# Altium schematic symbol library Arkx.SchLib: 534 symbols (part 1 of 5)
Pins are listed as number, name and electrical type; pins without a type are passive.

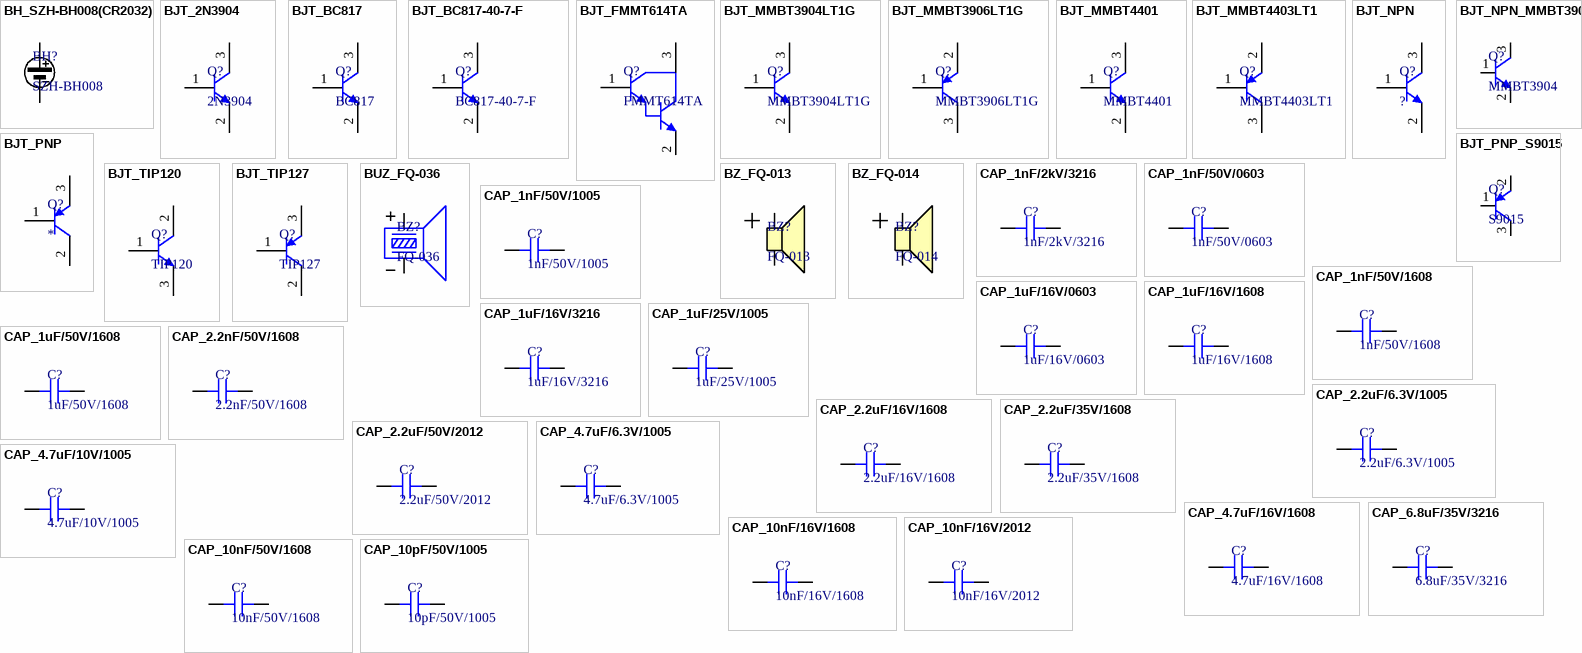
[diagram p0: symbols BH_SZH-BH008(CR2032) to CAP_10pF/50V/1005]

## BH_SZH-BH008(CR2032)
designator BH?, comment SZH-BH008
CR2032 Battery Holder SMD type
footprint BAT SZH-BH008 (CR2032 Battery Holder SMD type)
pins: 1 BAT+, 2 BAT-

## BJT_2N3904
designator Q?, comment 2N3904
NPN General Purpose Amplifier / VCEOmax = 40V / ICmax = 200mA / PD = 625mW
pins: 1 B, 2 E, 3 C

## BJT_BC817
designator Q?, comment BC817
45V 300mW 500mA 40@500mA,1V 100MHz 700mV@500mA,50mA NPN +150℃@(Tj) SOT-23  Bipolar Transistors - BJT ROHS; LCSC Part #: C475629; JLCPCB Part Type: Extended Part
footprint SOT 23-3 (DIODES INCORPORATED) (SOT23, 3-Leads, Body 2.90x2.40mm, Pitch 0.95mm, IPC Medium Density)
pins: 1 B, 2 E, 3 C

## BJT_BC817-40-7-F
designator Q?, comment BC817-40-7-F
TRANS NPN 45V 0.5A SOT23-3
footprint SOT 23-3 (DIODES INCORPORATED) (SOT23, 3-Leads, Body 2.90x2.40mm, Pitch 0.95mm, IPC Medium Density)
pins: 1 B, 2 E, 3 C

## BJT_FMMT614TA
designator Q?, comment FMMT614TA
TRANS NPN DARL 100V 0.5A SOT23-3
footprint SOT 23-3 (DIODES INCORPORATED) (SOT23, 3-Leads, Body 2.90x2.40mm, Pitch 0.95mm, IPC Medium Density)
pins: 1 B, 2 E, 3

## BJT_MMBT3904LT1G
designator Q?, comment MMBT3904LT1G
TRANS NPN 40V 0.2A SOT23-3; ComponentLink1Description: Datasheet; ComponentLink1URL: https://www.onsemi.com/pdf/datasheet/mmbt3904lt1-d.pdf
footprint SOT 23-3 (DIODES INCORPORATED) (SOT23, 3-Leads, Body 2.90x2.40mm, Pitch 0.95mm, IPC Medium Density)
pins: 1 B, 2 E, 3 C

## BJT_MMBT3906LT1G
designator Q?, comment MMBT3906LT1G
TRANS PNP 40V 0.2A SOT23; ComponentLink1Description: Datasheet; ComponentLink1URL: https://www.onsemi.com/pdf/datasheet/mmbt3906lt1-d.pdf
footprint SOT 23-3 (DIODES INCORPORATED) (SOT23, 3-Leads, Body 2.90x2.40mm, Pitch 0.95mm, IPC Medium Density)
pins: 1 B, 2 E, 3 C

## BJT_MMBT4401
designator Q?, comment MMBT4401
40V 300mW 600mA 100@150mA,1V 250MHz 400mV@150mA,15mA NPN +150℃@(Tj) SOT-23-3  Bipolar Transistors - BJT ROHS; LCSC Part #: C545536; JLCPCB Part Type: Extended Part
footprint SOT 23-3 (DIODES INCORPORATED) (SOT23, 3-Leads, Body 2.90x2.40mm, Pitch 0.95mm, IPC Medium Density)
pins: 1 B, 2 E, 3 C

## BJT_MMBT4403LT1
designator Q?, comment MMBT4403LT1
PNP, Vceo = -40V, Ic = -600mA, SOT-23
pins: 1 B, 2 E, 3 C

## BJT_NPN
designator Q?, comment ?
pins: 1 B, 2 E, 3 C

## BJT_NPN_MMBT3904
designator Q?, comment MMBT3904
100nA 40V 200mW 200mA 100@10mA,1V 300MHz 300mV@50mA,5mA NPN +150℃@(Tj) SOT-23(SOT-23-3)  Bipolar Transistors - BJT ROHS; LCSC Part #: C20526; JLCPCB Part Type: Basic Part
footprint SOT 23-3 (DIODES INCORPORATED) (SOT23, 3-Leads, Body 2.90x2.40mm, Pitch 0.95mm, IPC Medium Density)
pins: 1 B, 2 E, 3 C

## BJT_PNP
designator Q?
pins: 1 B, 2 E, 3 C

## BJT_PNP_S9015
designator Q?, comment S9015
100nA 45V 200mW 100mA 300@1mA,5V 150MHz 300mV@100mA,10mA PNP +150℃@(Tj) SOT-23(SOT-23-3)  Bipolar Transistors - BJT ROHS; LCSC Part #: C2149; JLCPCB Part Type: Basic Part
footprint SOT 23-3 (DIODES INCORPORATED) (SOT23, 3-Leads, Body 2.90x2.40mm, Pitch 0.95mm, IPC Medium Density)
pins: 1 B, 2 E, 3 C

## BJT_TIP120
designator Q?, comment TIP120
Darlington Transistors NPN Power
pins: 1 B, 2 C, 3 E

## BJT_TIP127
designator Q?, comment TIP127
Darlington Transistors PNP Power
pins: 1 B, 2 E, 3 C

## BUZ_FQ-036
designator BZ?, comment FQ-036
5V Passive Buzzer / Rated Voltage: 5V / Size: 12x9mm
footprint BUZ FQ-036
pins: 1, 2

## BZ_FQ-013
designator BZ?, comment FQ-013
Magnetic Active Buzzer / Rated Voltage: 3V / Size: 9x5.5mm
footprint BUZ FQ-013
pins: 1, 2

## BZ_FQ-014
designator BZ?, comment FQ-014
Magnetic Active Buzzer / Rated Voltage: 5V / Size: 9x5.5mm
footprint BUZ FQ-013
pins: 1, 2

## CAP_1nF/2kV/3216
designator C?, comment 1nF/2kV/3216
Ceramic CAP_1nF/2kV/3216; LCSC Part #: C9196; JLCPCB Part Type: Basic Part
footprint CAP 3216 (1206_INCH) - H1.8MM (Chip Capacitor, 2-Leads, Body 3.25x1.60mm, IPC Medium Density)
pins: 1, 2

## CAP_1nF/50V/0603
designator C?, comment 1nF/50V/0603
Ceramic CAP_1nF/50V/0603; JLCPCB Part Type: Extended Part; LCSC Part #: C85934
footprint CAP 0603 (0201_INCH) (Chip Capacitor, 2-Leads, Body 0.60x0.30mm, IPC Medium Density)
pins: 1, 2

## CAP_1nF/50V/1005
designator C?, comment 1nF/50V/1005
Ceramic CAP_1nF/50V/1005; LCSC Part #: C1523; JLCPCB Part Type: Basic Part
footprint CAP 1005 (0402_INCH) (Chip Capacitor, 2-Leads, Body 1.02x0.51mm, IPC Medium Density)
pins: 1, 2

## CAP_1nF/50V/1608
designator C?, comment 1nF/50V/1608
Ceramic CAP_1nF/50V/1608; LCSC Part #: C1588; JLCPCB Part Type: Basic Part
footprint CAP 1608 (0603_INCH) (Chip Capacitor, 2-Leads, Body 1.60x0.80mm, IPC Medium Density)
pins: 1, 2

## CAP_1uF/16V/0603
designator C?, comment 1uF/16V/0603
Ceramic CAP_1uF/16V/0603; JLCPCB Part Type: Extended Part; LCSC Part #: C307385
footprint CAP 0603 (0201_INCH) (Chip Capacitor, 2-Leads, Body 0.60x0.30mm, IPC Medium Density)
pins: 1, 2

## CAP_1uF/16V/1608
designator C?, comment 1uF/16V/1608
Ceramic CAP_1uF/16V/1608; LCSC Part #: C1592; JLCPCB Part Type: Extended Part
footprint CAP 1608 (0603_INCH) (Chip Capacitor, 2-Leads, Body 1.60x0.80mm, IPC Medium Density)
pins: 1, 2

## CAP_1uF/16V/3216
designator C?, comment 1uF/16V/3216
Ceramic CAP_1uF/16V/3216; LCSC Part #: C47971; JLCPCB Part Type: Extended Part
footprint CAP 3216 (1206_INCH) - H1.0MM (Chip Capacitor, 2-Leads, Body 3.25x1.60mm, IPC Medium Density)
pins: 1, 2

## CAP_1uF/25V/1005
designator C?, comment 1uF/25V/1005
Ceramic CAP_1uF/25V/1005; LCSC Part #: C52923; JLCPCB Part Type: Basic Part
footprint CAP 1005 (0402_INCH) (Chip Capacitor, 2-Leads, Body 1.02x0.51mm, IPC Medium Density)
pins: 1, 2

## CAP_1uF/50V/1608
designator C?, comment 1uF/50V/1608
Ceramic CAP_1uF/50V/1608; LCSC Part #: C15849; JLCPCB Part Type: Basic Part
footprint CAP 1608 (0603_INCH) (Chip Capacitor, 2-Leads, Body 1.60x0.80mm, IPC Medium Density)
pins: 1, 2

## CAP_2.2nF/50V/1608
designator C?, comment 2.2nF/50V/1608
Ceramic CAP_2.2nF/50V/1608; LCSC Part #: C1604; JLCPCB Part Type: Basic Part
footprint CAP 1608 (0603_INCH) (Chip Capacitor, 2-Leads, Body 1.60x0.80mm, IPC Medium Density)
pins: 1, 2

## CAP_2.2uF/6.3V/1005
designator C?, comment 2.2uF/6.3V/1005
Ceramic CAP_2.2uF/6.3V/1005; LCSC Part #: C12530; JLCPCB Part Type: Basic Part
footprint CAP 1005 (0402_INCH) (Chip Capacitor, 2-Leads, Body 1.02x0.51mm, IPC Medium Density)
pins: 1, 2

## CAP_2.2uF/16V/1608
designator C?, comment 2.2uF/16V/1608
Ceramic CAP_2.2uF/16V/1608; LCSC Part #: C23630; JLCPCB Part Type: Basic Part
footprint CAP 1608 (0603_INCH) (Chip Capacitor, 2-Leads, Body 1.60x0.80mm, IPC Medium Density)
pins: 1, 2

## CAP_2.2uF/35V/1608
designator C?, comment 2.2uF/35V/1608
Ceramic CAP_2.2uF/35V/1608; LCSC Part #: C86017; JLCPCB Part Type: Extended Part
footprint CAP 1608 (0603_INCH) (Chip Capacitor, 2-Leads, Body 1.60x0.80mm, IPC Medium Density)
pins: 1, 2

## CAP_2.2uF/50V/2012
designator C?, comment 2.2uF/50V/2012
Ceramic CAP_2.2uF/50V/2012; LCSC Part #: C377773; JLCPCB Part Type: Basic Part
footprint CAP 2012 (0805_INCH) (Chip Capacitor, 2-Leads, Body 2.00x1.20mm, IPC Medium Density)
pins: 1, 2

## CAP_4.7uF/6.3V/1005
designator C?, comment 4.7uF/6.3V/1005
Ceramic CAP_4.7uF/6.3V/1005; LCSC Part #: C76995; JLCPCB Part Type: Extended Part
footprint CAP 1005 (0402_INCH) (Chip Capacitor, 2-Leads, Body 1.02x0.51mm, IPC Medium Density)
pins: 1, 2

## CAP_4.7uF/10V/1005
designator C?, comment 4.7uF/10V/1005
10V 4.7uF X5R ±20% 0402  Multilayer Ceramic Capacitors MLCC - SMD/SMT ROHS; JLCPCB Part Type: Basic Part; LCSC Part #: C23733
footprint CAP 1005 (0402_INCH) (Chip Capacitor, 2-Leads, Body 1.02x0.51mm, IPC Medium Density)
pins: 1, 2

## CAP_4.7uF/16V/1608
designator C?, comment 4.7uF/16V/1608
Ceramic CAP_4.7uF/16V/1608; LCSC Part #: C19666; JLCPCB Part Type: Basic Part
footprint CAP 1608 (0603_INCH) (Chip Capacitor, 2-Leads, Body 1.60x0.80mm, IPC Medium Density)
pins: 1, 2

## CAP_6.8uF/35V/3216
designator C?, comment 6.8uF/35V/3216
Ceramic CAP_6.8uF/35V/3216; LCSC Part #: C342646; JLCPCB Part Type: Extended Part
footprint CAP 3216 (1206_INCH) - H1.2MM (Chip Capacitor, 2-Leads, Body 3.25x1.60mm, IPC Medium Density)
pins: 1, 2

## CAP_10nF/16V/1608
designator C?, comment 10nF/16V/1608
Ceramic CAP_10nF/16V/1608; LCSC Part #: C519509; JLCPCB Part Type: Extended Part
footprint CAP 1608 (0603_INCH) (Chip Capacitor, 2-Leads, Body 1.60x0.80mm, IPC Medium Density)
pins: 1, 2

## CAP_10nF/16V/2012
designator C?, comment 10nF/16V/2012
Ceramic CAP_10nF/16V/2012; LCSC Part #: C575473; JLCPCB Part Type: Extended Part
footprint CAP 2012 (0805_INCH) (Chip Capacitor, 2-Leads, Body 2.00x1.20mm, IPC Medium Density)
pins: 1, 2

## CAP_10nF/50V/1608
designator C?, comment 10nF/50V/1608
Ceramic CAP_10nF/50V/1608; LCSC Part #: C57112; JLCPCB Part Type: Basic Part
footprint CAP 1608 (0603_INCH) (Chip Capacitor, 2-Leads, Body 1.60x0.80mm, IPC Medium Density)
pins: 1, 2

## CAP_10pF/50V/1005
designator C?, comment 10pF/50V/1005
Ceramic CAP_10pF/50V/1005; LCSC Part #: C32949; JLCPCB Part Type: Basic Part
footprint CAP 1005 (0402_INCH) (Chip Capacitor, 2-Leads, Body 1.02x0.51mm, IPC Medium Density)
pins: 1, 2

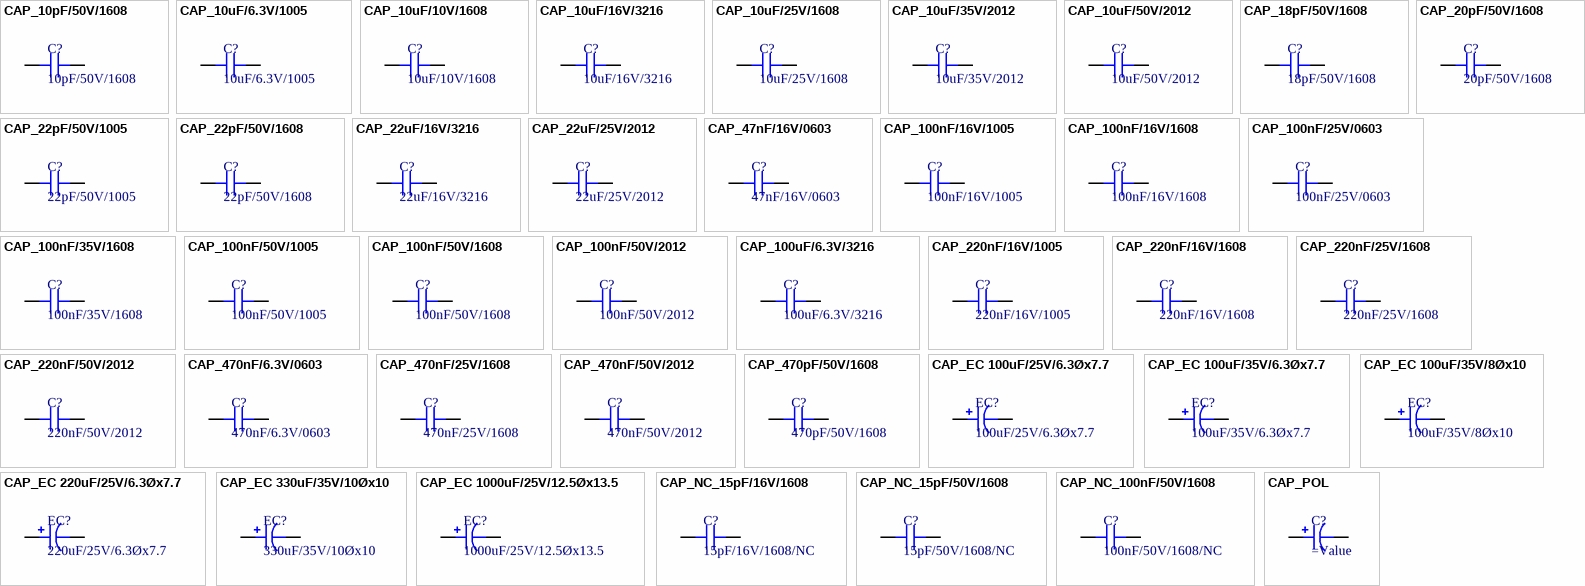
[diagram p1: symbols CAP_10pF/50V/1608 to CAP_POL]

## CAP_10pF/50V/1608
designator C?, comment 10pF/50V/1608
Ceramic CAP_10pF/50V/1608; LCSC Part #: C1634; JLCPCB Part Type: Basic Part
footprint CAP 1608 (0603_INCH) (Chip Capacitor, 2-Leads, Body 1.60x0.80mm, IPC Medium Density)
pins: 1, 2

## CAP_10uF/6.3V/1005
designator C?, comment 10uF/6.3V/1005
Ceramic CAP_10uF/6.3V/1005; LCSC Part #: C15525; JLCPCB Part Type: Basic Part
footprint CAP 1005 (0402_INCH) (Chip Capacitor, 2-Leads, Body 1.02x0.51mm, IPC Medium Density)
pins: 1, 2

## CAP_10uF/10V/1608
designator C?, comment 10uF/10V/1608
Ceramic CAP_10uF/10V/1608; LCSC Part #: C19702; JLCPCB Part Type: Basic Part
footprint CAP 1608 (0603_INCH) (Chip Capacitor, 2-Leads, Body 1.60x0.80mm, IPC Medium Density)
pins: 1, 2

## CAP_10uF/16V/3216
designator C?, comment 10uF/16V/3216
Ceramic CAP_10uF/16V/3216; LCSC Part #: C47971; JLCPCB Part Type: Extended Part
footprint CAP 3216 (1206_INCH) - H1.2MM (Chip Capacitor, 2-Leads, Body 3.25x1.60mm, IPC Medium Density)
pins: 1, 2

## CAP_10uF/25V/1608
designator C?, comment 10uF/25V/1608
Ceramic CAP_10uF/25V/1608; LCSC Part #: C96446; JLCPCB Part Type: Basic Part
footprint CAP 1608 (0603_INCH) (Chip Capacitor, 2-Leads, Body 1.60x0.80mm, IPC Medium Density)
pins: 1, 2

## CAP_10uF/35V/2012
designator C?, comment 10uF/35V/2012
Ceramic CAP_10uF/35V/2012; LCSC Part #: C440198; JLCPCB Part Type: Basic Part
footprint CAP 2012 (0805_INCH) (Chip Capacitor, 2-Leads, Body 2.00x1.20mm, IPC Medium Density)
pins: 1, 2

## CAP_10uF/50V/2012
designator C?, comment 10uF/50V/2012
Ceramic CAP_10uF/50V/2012; LCSC Part #: C440198; JLCPCB Part Type: Basic Part
footprint CAP 2012 (0805_INCH) (Chip Capacitor, 2-Leads, Body 2.00x1.20mm, IPC Medium Density)
pins: 1, 2

## CAP_18pF/50V/1608
designator C?, comment 18pF/50V/1608
Ceramic CAP_18pF/50V/1608; LCSC Part #: C1647; JLCPCB Part Type: Basic Part
footprint CAP 1608 (0603_INCH) (Chip Capacitor, 2-Leads, Body 1.60x0.80mm, IPC Medium Density)
pins: 1, 2

## CAP_20pF/50V/1608
designator C?, comment 20pF/50V/1608
Ceramic CAP_20pF/50V/1608; LCSC Part #: C1648; JLCPCB Part Type: Basic Part
footprint CAP 1608 (0603_INCH) (Chip Capacitor, 2-Leads, Body 1.60x0.80mm, IPC Medium Density)
pins: 1, 2

## CAP_22pF/50V/1005
designator C?, comment 22pF/50V/1005
Ceramic CAP_22pF/50V/1005; LCSC Part #: C1555; JLCPCB Part Type: Basic Part
footprint CAP 1005 (0402_INCH) (Chip Capacitor, 2-Leads, Body 1.02x0.51mm, IPC Medium Density)
pins: 1, 2

## CAP_22pF/50V/1608
designator C?, comment 22pF/50V/1608
Ceramic CAP_22pF/50V/1608; LCSC Part #: C1653; JLCPCB Part Type: Basic Part
footprint CAP 1608 (0603_INCH) (Chip Capacitor, 2-Leads, Body 1.60x0.80mm, IPC Medium Density)
pins: 1, 2

## CAP_22uF/16V/3216
designator C?, comment 22uF/16V/3216
Ceramic CAP_22uF/16V/3216; LCSC Part #: C12891; JLCPCB Part Type: Basic Part
footprint CAP 3216 (1206_INCH) - H1.8MM (Chip Capacitor, 2-Leads, Body 3.25x1.60mm, IPC Medium Density)
pins: 1, 2

## CAP_22uF/25V/2012
designator C?, comment 22uF/25V/2012
Ceramic CAP_22uF/25V/2012; LCSC Part #: C45783; JLCPCB Part Type: Basic Part
footprint CAP 2012 (0805_INCH) (Chip Capacitor, 2-Leads, Body 2.00x1.20mm, IPC Medium Density)
pins: 1, 2

## CAP_47nF/16V/0603
designator C?, comment 47nF/16V/0603
16V 47nF X5R ±10% 0201 Multilayer Ceramic Capacitors MLCC - SMD/SMT ROHS; JLCPCB Part Type: Extended Part; LCSC Part #: C88917
footprint CAP 0603 (0201_INCH) (Chip Capacitor, 2-Leads, Body 0.60x0.30mm, IPC Medium Density)
pins: 1, 2

## CAP_100nF/16V/1005
designator C?, comment 100nF/16V/1005
Ceramic CAP_100nF/16V/1005; LCSC Part #: C1525; JLCPCB Part Type: Basic Part
footprint CAP 1005 (0402_INCH) (Chip Capacitor, 2-Leads, Body 1.02x0.51mm, IPC Medium Density)
pins: 1, 2

## CAP_100nF/16V/1608
designator C?, comment 100nF/16V/1608
Ceramic CAP_100nF/16V/1608; LCSC Part #: C66501; JLCPCB Part Type: Extended Part
footprint CAP 1608 (0603_INCH) (Chip Capacitor, 2-Leads, Body 1.60x0.80mm, IPC Medium Density)
pins: 1, 2

## CAP_100nF/25V/0603
designator C?, comment 100nF/25V/0603
Ceramic CAP_100nF/25V/0603; JLCPCB Part Type: Extended Part; LCSC Part #: C181047
footprint CAP 0603 (0201_INCH) (Chip Capacitor, 2-Leads, Body 0.60x0.30mm, IPC Medium Density)
pins: 1, 2

## CAP_100nF/35V/1608
designator C?, comment 100nF/35V/1608
Ceramic CAP_100nF/35V/1608; LCSC Part #: C385964; JLCPCB Part Type: Extended Part
footprint CAP 1608 (0603_INCH) (Chip Capacitor, 2-Leads, Body 1.60x0.80mm, IPC Medium Density)
pins: 1, 2

## CAP_100nF/50V/1005
designator C?, comment 100nF/50V/1005
Ceramic CAP_100nF/50V/1005; LCSC Part #: C307331; JLCPCB Part Type: Basic Part
footprint CAP 1005 (0402_INCH) (Chip Capacitor, 2-Leads, Body 1.02x0.51mm, IPC Medium Density)
pins: 1, 2

## CAP_100nF/50V/1608
designator C?, comment 100nF/50V/1608
Ceramic CAP_100nF/50V/1608; LCSC Part #: C14663; JLCPCB Part Type: Basic Part
footprint CAP 1608 (0603_INCH) (Chip Capacitor, 2-Leads, Body 1.60x0.80mm, IPC Medium Density)
pins: 1, 2

## CAP_100nF/50V/2012
designator C?, comment 100nF/50V/2012
Ceramic CAP_100nF/50V/2012; LCSC Part #: C49678; JLCPCB Part Type: Basic Part
footprint CAP 2012 (0805_INCH) (Chip Capacitor, 2-Leads, Body 2.00x1.20mm, IPC Medium Density)
pins: 1, 2

## CAP_100uF/6.3V/3216
designator C?, comment 100uF/6.3V/3216
Ceramic CAP_100uF/6.3V/3216; LCSC Part #: C15008; JLCPCB Part Type: Basic Part
footprint CAP 3216 (1206_INCH) - H1.8MM (Chip Capacitor, 2-Leads, Body 3.25x1.60mm, IPC Medium Density)
pins: 1, 2

## CAP_220nF/16V/1005
designator C?, comment 220nF/16V/1005
Ceramic CAP_220nF/16V/1005; LCSC Part #: C16772; JLCPCB Part Type: Basic Part
footprint CAP 1005 (0402_INCH) (Chip Capacitor, 2-Leads, Body 1.02x0.51mm, IPC Medium Density)
pins: 1, 2

## CAP_220nF/16V/1608
designator C?, comment 220nF/16V/1608
Ceramic CAP_220nF/16V/1608; LCSC Part #: C160828; JLCPCB Part Type: Extended Part
footprint CAP 1608 (0603_INCH) (Chip Capacitor, 2-Leads, Body 1.60x0.80mm, IPC Medium Density)
pins: 1, 2

## CAP_220nF/25V/1608
designator C?, comment 220nF/25V/1608
Ceramic CAP_220nF/25V/1608; LCSC Part #: C21120; JLCPCB Part Type: Basic Part
footprint CAP 1608 (0603_INCH) (Chip Capacitor, 2-Leads, Body 1.60x0.80mm, IPC Medium Density)
pins: 1, 2

## CAP_220nF/50V/2012
designator C?, comment 220nF/50V/2012
Ceramic CAP_220nF/50V/2012; LCSC Part #: C5378; JLCPCB Part Type: Basic Part
footprint CAP 2012 (0805_INCH) (Chip Capacitor, 2-Leads, Body 2.00x1.20mm, IPC Medium Density)
pins: 1, 2

## CAP_470nF/6.3V/0603
designator C?, comment 470nF/6.3V/0603
6.3V 470nF X5R ±10% 0201  Multilayer Ceramic Capacitors MLCC - SMD/SMT ROHS; JLCPCB Part Type: Extended Part; LCSC Part #: C85926
footprint CAP 0603 (0201_INCH) (Chip Capacitor, 2-Leads, Body 0.60x0.30mm, IPC Medium Density)
pins: 1, 2

## CAP_470nF/25V/1608
designator C?, comment 470nF/25V/1608
Ceramic CAP_470nF/25V/1608; LCSC Part #: C1623; JLCPCB Part Type: Basic Part
footprint CAP 1608 (0603_INCH) (Chip Capacitor, 2-Leads, Body 1.60x0.80mm, IPC Medium Density)
pins: 1, 2

## CAP_470nF/50V/2012
designator C?, comment 470nF/50V/2012
Ceramic CAP_470nF/50V/2012; LCSC Part #: C13967; JLCPCB Part Type: Basic Part
footprint CAP 2012 (0805_INCH) (Chip Capacitor, 2-Leads, Body 2.00x1.20mm, IPC Medium Density)
pins: 1, 2

## CAP_470pF/50V/1608
designator C?, comment 470pF/50V/1608
Ceramic CAP_470pF/50V/1608; LCSC Part #: C1620; JLCPCB Part Type: Basic Part
footprint CAP 1608 (0603_INCH) (Chip Capacitor, 2-Leads, Body 1.60x0.80mm, IPC Medium Density)
pins: 1, 2

## CAP_EC 100uF/25V/6.3Øx7.7
designator EC?, comment 100uF/25V/6.3Øx7.7
Eletrolytic CAP_100uF/25V/6.3Øx7.7; LCSC Part #: C127971; JLCPCB Part Type: Extended Part
footprint CAP ALSMD 6.3MM H8.0MM (Aluminum SMT Polymer Capacitor, 6.3mm Diameter, 8.00mm Height, 7.20mm Maximum Leads Span)
pins: 1, 2

## CAP_EC 100uF/35V/6.3Øx7.7
designator EC?, comment 100uF/35V/6.3Øx7.7
Eletrolytic CAP_100uF/35V/6.3Øx7.7; LCSC Part #: C176666; JLCPCB Part Type: Extended Part
footprint CAP ALSMD 6.6MM H7.7MM (Aluminum Electrolytic Capacitor, Body 6.60x6.60x7.70mm, IPC Low Density)
pins: 1, 2

## CAP_EC 100uF/35V/8Øx10
designator EC?, comment 100uF/35V/8Øx10
Eletrolytic CAP_100uF/35V/8Øx10; LCSC Part #: C134810; JLCPCB Part Type: Extended Part
pins: 1, 2

## CAP_EC 220uF/25V/6.3Øx7.7
designator EC?, comment 220uF/25V/6.3Øx7.7
Electrolytic CAP_220uF/25V/6.3Øx7.7; LCSC Part #: C696188; JLCPCB Part Type: Extended Part
footprint CAP ALSMD 6.3MM H8.0MM (Aluminum SMT Polymer Capacitor, 6.3mm Diameter, 8.00mm Height, 7.20mm Maximum Leads Span)
pins: 1, 2

## CAP_EC 330uF/35V/10Øx10
designator EC?, comment 330uF/35V/10Øx10
Electrolytic CAP_330uF/35V/10Øx10; LCSC Part #: C311621; JLCPCB Part Type: Extended Part
footprint CAP ALSMD 10.3MM H10.5MM LEADSPANMAX12MM (Aluminum SMD Electrolytic Capacitor, 10.30mm Land Size, 10.00mm Diameter, 10.50mm Height, 12.00mm Maximum Leads Span)
pins: 1, 2

## CAP_EC 1000uF/25V/12.5Øx13.5
designator EC?, comment 1000uF/25V/12.5Øx13.5
2000hrs@105℃ -45℃~+105℃ 1000uF 13.5mm 25V 12.5mm ±20% SMD,12.5x13.5mm Aluminum Electrolytic Capacitors - SMD ROHS; LCSC Part #: C249596; JLCPCB Part Type: Extended Part
footprint CAP ALSMD 12.5MM H14MM (Aluminum SMD Electrolytic Capacitor, 12.50mm Land Size, 12.50mm Diameter, 14.00mm Height, 14.90mm Maximum Leads Span)
pins: 1, 2

## CAP_NC_15pF/16V/1608
designator C?, comment 15pF/16V/1608/NC
Ceramic CAP_15pF/16V/1608
footprint CAP 1608 (0603_INCH)/NC (Chip Capacitor, 2-Leads, Body 1.60x0.80mm, IPC Medium Density)
pins: 1, 2

## CAP_NC_15pF/50V/1608
designator C?, comment 15pF/50V/1608/NC
Ceramic CAP_100nF/50V/1608
footprint CAP 1608 (0603_INCH)/NC (Chip Capacitor, 2-Leads, Body 1.60x0.80mm, IPC Medium Density)
pins: 1, 2

## CAP_NC_100nF/50V/1608
designator C?, comment 100nF/50V/1608/NC
Ceramic CAP_100nF/50V/1608
footprint CAP 1608 (0603_INCH)/NC (Chip Capacitor, 2-Leads, Body 1.60x0.80mm, IPC Medium Density)
pins: 1, 2

## CAP_POL
designator C?
SMT Polarised Capacitor
pins: 1, 2

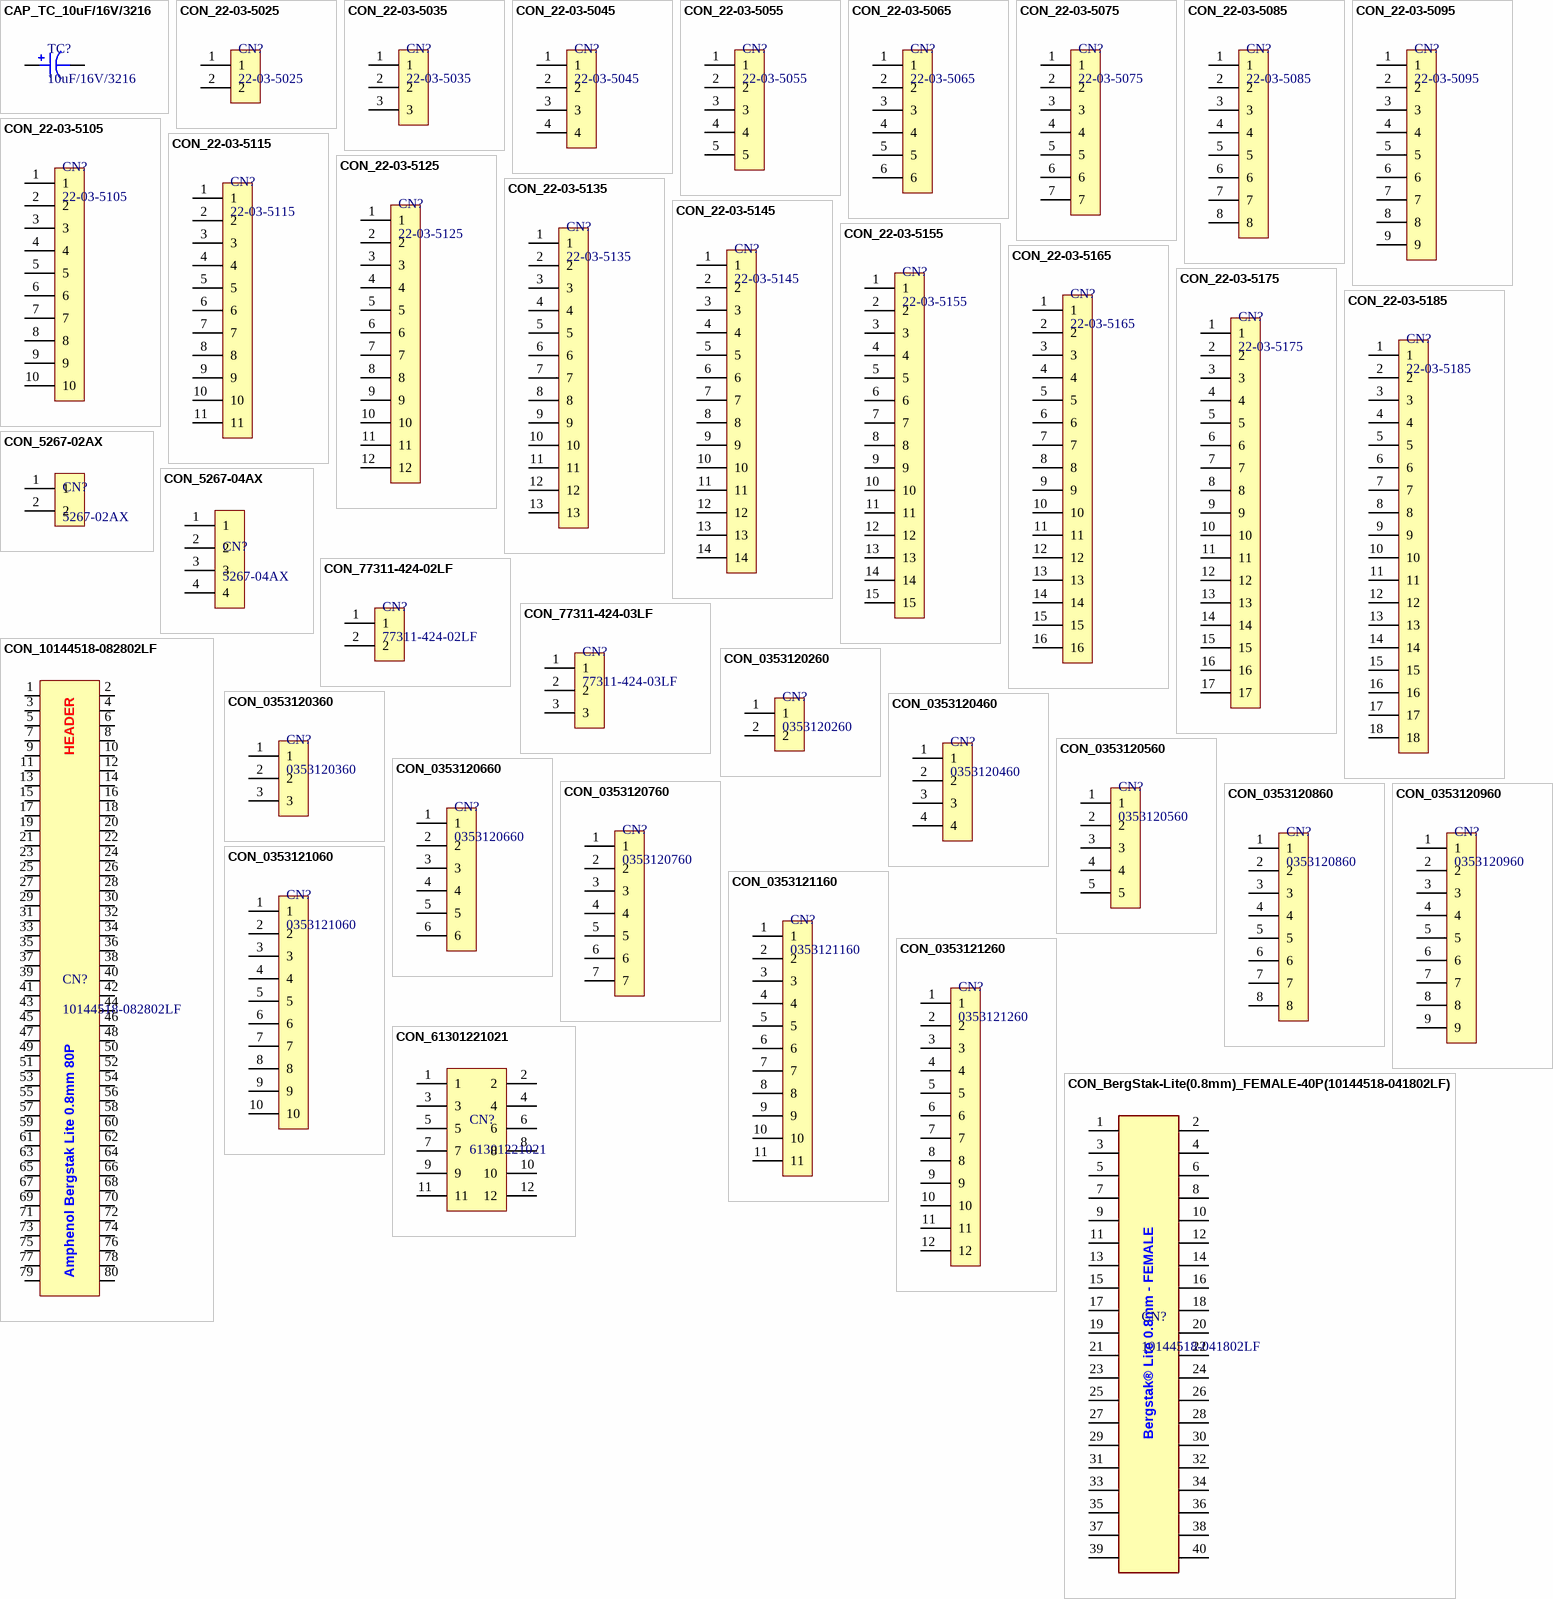
[diagram p2: symbols CAP_TC_10uF/16V/3216 to CON_BergStak-Lite(0.8mm)_FEMALE-40P(10144518-041802LF)]

## CAP_TC_10uF/16V/3216
designator TC?, comment 10uF/16V/3216
Tantal CAP_10uF/16V/3216(Tantal A Size); LCSC Part #: C7171; JLCPCB Part Type: Basic Part
pins: 1, 2

## CON_22-03-5025
designator CN?, comment 22-03-5025
CONN HEADER VERT 2POS 2.5MM
footprint CON 22035025 (MOLEX) (CONN HEADER VERT 2POS 2.5MM)
pins: 1, 2

## CON_22-03-5035
designator CN?, comment 22-03-5035
CONN HEADER VERT 3POS 2.5MM
footprint CON 22035035 (MOLEX) (CONN HEADER VERT 3POS 2.5MM)
pins: 1, 2, 3

## CON_22-03-5045
designator CN?, comment 22-03-5045
CONN HEADER VERT 4POS 2.5MM
footprint CON 22035045 (MOLEX) (CONN HEADER VERT 4POS 2.5MM)
pins: 1, 2, 3, 4

## CON_22-03-5055
designator CN?, comment 22-03-5055
CONN HEADER VERT 5POS 2.5MM
footprint CON 22035055 (MOLEX) (CONN HEADER VERT 5POS 2.5MM)
pins: 1, 2, 3, 4, 5

## CON_22-03-5065
designator CN?, comment 22-03-5065
CONN HEADER VERT 6POS 2.5MM
footprint CON 22035065 (MOLEX) (CONN HEADER VERT 6POS 2.5MM)
pins: 1, 2, 3, 4, 5, 6

## CON_22-03-5075
designator CN?, comment 22-03-5075
CONN HEADER VERT 7POS 2.5MM
footprint CON 22035075 (MOLEX) (CONN HEADER VERT 7POS 2.5MM)
pins: 1, 2, 3, 4, 5, 6, 7

## CON_22-03-5085
designator CN?, comment 22-03-5085
CONN HEADER VERT 8POS 2.5MM
footprint CON 22035085 (MOLEX) (CONN HEADER VERT 8POS 2.5MM)
pins: 1, 2, 3, 4, 5, 6, 7, 8

## CON_22-03-5095
designator CN?, comment 22-03-5095
CONN HEADER VERT 9POS 2.5MM
footprint CON 22035095 (MOLEX) (CONN HEADER VERT 9POS 2.5MM)
pins: 1, 2, 3, 4, 5, 6, 7, 8, 9

## CON_22-03-5105
designator CN?, comment 22-03-5105
CONN HEADER VERT 10POS 2.5MM
footprint CON 22035105 (MOLEX) (CONN HEADER VERT 10POS 2.5MM)
pins: 1, 2, 3, 4, 5, 6, 7, 8, 9, 10

## CON_22-03-5115
designator CN?, comment 22-03-5115
CONN HEADER VERT 11POS 2.5MM
footprint CON 22035115 (MOLEX) (CONN HEADER VERT 11POS 2.5MM)
pins: 1, 2, 3, 4, 5, 6, 7, 8, 9, 10, 11

## CON_22-03-5125
designator CN?, comment 22-03-5125
CONN HEADER VERT 12POS 2.5MM
footprint CON 22035125 (MOLEX) (CONN HEADER VERT 12POS 2.5MM)
pins: 1, 2, 3, 4, 5, 6, 7, 8, 9, 10, 11, 12

## CON_22-03-5135
designator CN?, comment 22-03-5135
CONN HEADER VERT 13POS 2.5MM
pins: 1, 2, 3, 4, 5, 6, 7, 8, 9, 10, 11, 12, 13

## CON_22-03-5145
designator CN?, comment 22-03-5145
CONN HEADER VERT 14POS 2.5MM
footprint CON 22035145 (MOLEX) (CONN HEADER VERT 14POS 2.5MM)
pins: 1, 2, 3, 4, 5, 6, 7, 8, 9, 10, 11, 12, 13, 14

## CON_22-03-5155
designator CN?, comment 22-03-5155
CONN HEADER VERT 15POS 2.5MM
footprint CON 22035155 (MOLEX) (CONN HEADER VERT 15POS 2.5MM)
pins: 1, 2, 3, 4, 5, 6, 7, 8, 9, 10, 11, 12, 13, 14, 15

## CON_22-03-5165
designator CN?, comment 22-03-5165
CONN HEADER VERT 16POS 2.5MM
pins: 1, 2, 3, 4, 5, 6, 7, 8, 9, 10, 11, 12, 13, 14, 15, 16

## CON_22-03-5175
designator CN?, comment 22-03-5175
CONN HEADER VERT 17POS 2.5MM
pins: 1, 2, 3, 4, 5, 6, 7, 8, 9, 10, 11, 12, 13, 14, 15, 16, 17

## CON_22-03-5185
designator CN?, comment 22-03-5185
CONN HEADER VERT 18POS 2.5MM
pins: 1, 2, 3, 4, 5, 6, 7, 8, 9, 10, 11, 12, 13, 14, 15, 16, 17, 18

## CON_5267-02AX
designator CN?, comment 5267-02AX
pins: 1, 2

## CON_5267-04AX
designator CN?, comment 5267-04AX
pins: 1, 2, 3, 4

## CON_77311-424-02LF
designator CN?, comment 77311-424-02LF
BergStik®, Board to Board connector, Unshrouded vertical Header, Through Hole, Single Row, 02 Positions, 2.54 mm Pitch.
footprint CON 77311-424-02LF (BergStik®, Board to Board connector, Unshrouded vertical Header, Through Hole, Single Row, 02 Positions, 2.54 mm Pitch.)
pins: 1, 2

## CON_77311-424-03LF
designator CN?, comment 77311-424-03LF
BergStik®, Board to Board connector, Unshrouded vertical Header, Through Hole, Single Row, 03 Positions, 2.54 mm Pitch.
footprint CON 77311-424-03LF (BergStik®, Board to Board connector, Unshrouded vertical Header, Through Hole, Single Row, 03 Positions, 2.54 mm Pitch.)
pins: 1, 2, 3

## CON_10144518-082802LF
designator CN?, comment 10144518-082802LF
BergStak® Lite 0.80mm, Board-to-Board Connector, 80 Positions, Dual Row, Vertical Header; Manufacturer: Amphenol; Manufacturer Part Number: 10144518-082802LF
footprint 10144518-082802LF
pins: 1, 2, 3, 4, 5, 6, 7, 8, 9, 10, 11, 12, 13, 14, 15, 16, 17, 18, 19, 20, 21, 22, 23, 24, 25, 26, 27, 28, 29, 30, 31, 32, 33, 34, 35, 36, 37, 38, 39, 40, 41, 42, 43, 44, 45, 46, 47, 48, 49, 50, 51, 52, 53, 54, 55, 56, 57, 58, 59, 60, 61, 62, 63, 64, 65, 66, 67, 68, 69, 70, 71, 72, 73, 74, 75, 76, 77, 78, 79, 80
text: HEADER; Amphenol Bergstak Lite 0.8mm 80P

## CON_0353120260
designator CN?, comment 0353120260
CONN HEADER VERT 2POS 2.5MM
footprint CON 0353120260 (MOLEX) (CONN HEADER VERT 2POS 2.5MM)
pins: 1, 2

## CON_0353120360
designator CN?, comment 0353120360
CONN HEADER VERT 3POS 2.5MM
footprint CON 0353120360 (MOLEX) (CONN HEADER VERT 3POS 2.5MM)
pins: 1, 2, 3

## CON_0353120460
designator CN?, comment 0353120460
CONN HEADER VERT 4POS 2.5MM
footprint CON 0353120460 (MOLEX) (CONN HEADER VERT 4POS 2.5MM)
pins: 1, 2, 3, 4

## CON_0353120560
designator CN?, comment 0353120560
CONN HEADER VERT 5POS 2.5MM
footprint CON 0353120560 (MOLEX) (CONN HEADER VERT 5POS 2.5MM)
pins: 1, 2, 3, 4, 5

## CON_0353120660
designator CN?, comment 0353120660
CONN HEADER VERT 6POS 2.5MM
footprint CON 0353120660 (MOLEX) (CONN HEADER VERT 6POS 2.5MM)
pins: 1, 2, 3, 4, 5, 6

## CON_0353120760
designator CN?, comment 0353120760
CONN HEADER VERT 7POS 2.5MM
footprint CON 0353120760 (MOLEX) (CONN HEADER VERT 7POS 2.5MM)
pins: 1, 2, 3, 4, 5, 6, 7

## CON_0353120860
designator CN?, comment 0353120860
CONN HEADER VERT 8POS 2.5MM
footprint CON 0353120860 (MOLEX) (CONN HEADER VERT 8POS 2.5MM)
pins: 1, 2, 3, 4, 5, 6, 7, 8

## CON_0353120960
designator CN?, comment 0353120960
CONN HEADER VERT 9POS 2.5MM
footprint CON 0353120960 (MOLEX) (CONN HEADER VERT 9POS 2.5MM)
pins: 1, 2, 3, 4, 5, 6, 7, 8, 9

## CON_0353121060
designator CN?, comment 0353121060
CONN HEADER VERT 10POS 2.5MM
footprint CON 0353121060 (MOLEX) (CONN HEADER VERT 10POS 2.5MM)
pins: 1, 2, 3, 4, 5, 6, 7, 8, 9, 10

## CON_0353121160
designator CN?, comment 0353121160
CONN HEADER VERT 11POS 2.5MM
footprint CON 0353121160 (MOLEX) (CONN HEADER VERT 11POS 2.5MM)
pins: 1, 2, 3, 4, 5, 6, 7, 8, 9, 10, 11

## CON_0353121260
designator CN?, comment 0353121260
CONN HEADER VERT 12POS 2.5MM
footprint CON 0353121260 (MOLEX) (CONN HEADER VERT 12POS 2.5MM)
pins: 1, 2, 3, 4, 5, 6, 7, 8, 9, 10, 11, 12

## CON_61301221021
designator CN?, comment 61301221021
CONN HEADER R/A 12POS 2.54MM
footprint CON HEADER R/A 12POS 2.54MM (CONN HEADER R/A 12POS 2.54MM)
pins: 1, 2, 3, 4, 5, 6, 7, 8, 9, 10, 11, 12

## CON_BergStak-Lite(0.8mm)_FEMALE-40P(10144518-041802LF)
designator CN?, comment 10144518-041802LF
JLCPCB Part Type: Extended Part; LCSC Part #: C5410298
footprint CON_BergStak-Lite(0.8mm)_FEMALE-40P(10144518-041802LF)_HandSolder
pins: 1, 2, 3, 4, 5, 6, 7, 8, 9, 10, 11, 12, 13, 14, 15, 16, 17, 18, 19, 20, 21, 22, 23, 24, 25, 26, 27, 28, 29, 30, 31, 32, 33, 34, 35, 36, 37, 38, 39, 40
text: Bergstak® Lite 0.8mm - FEMALE

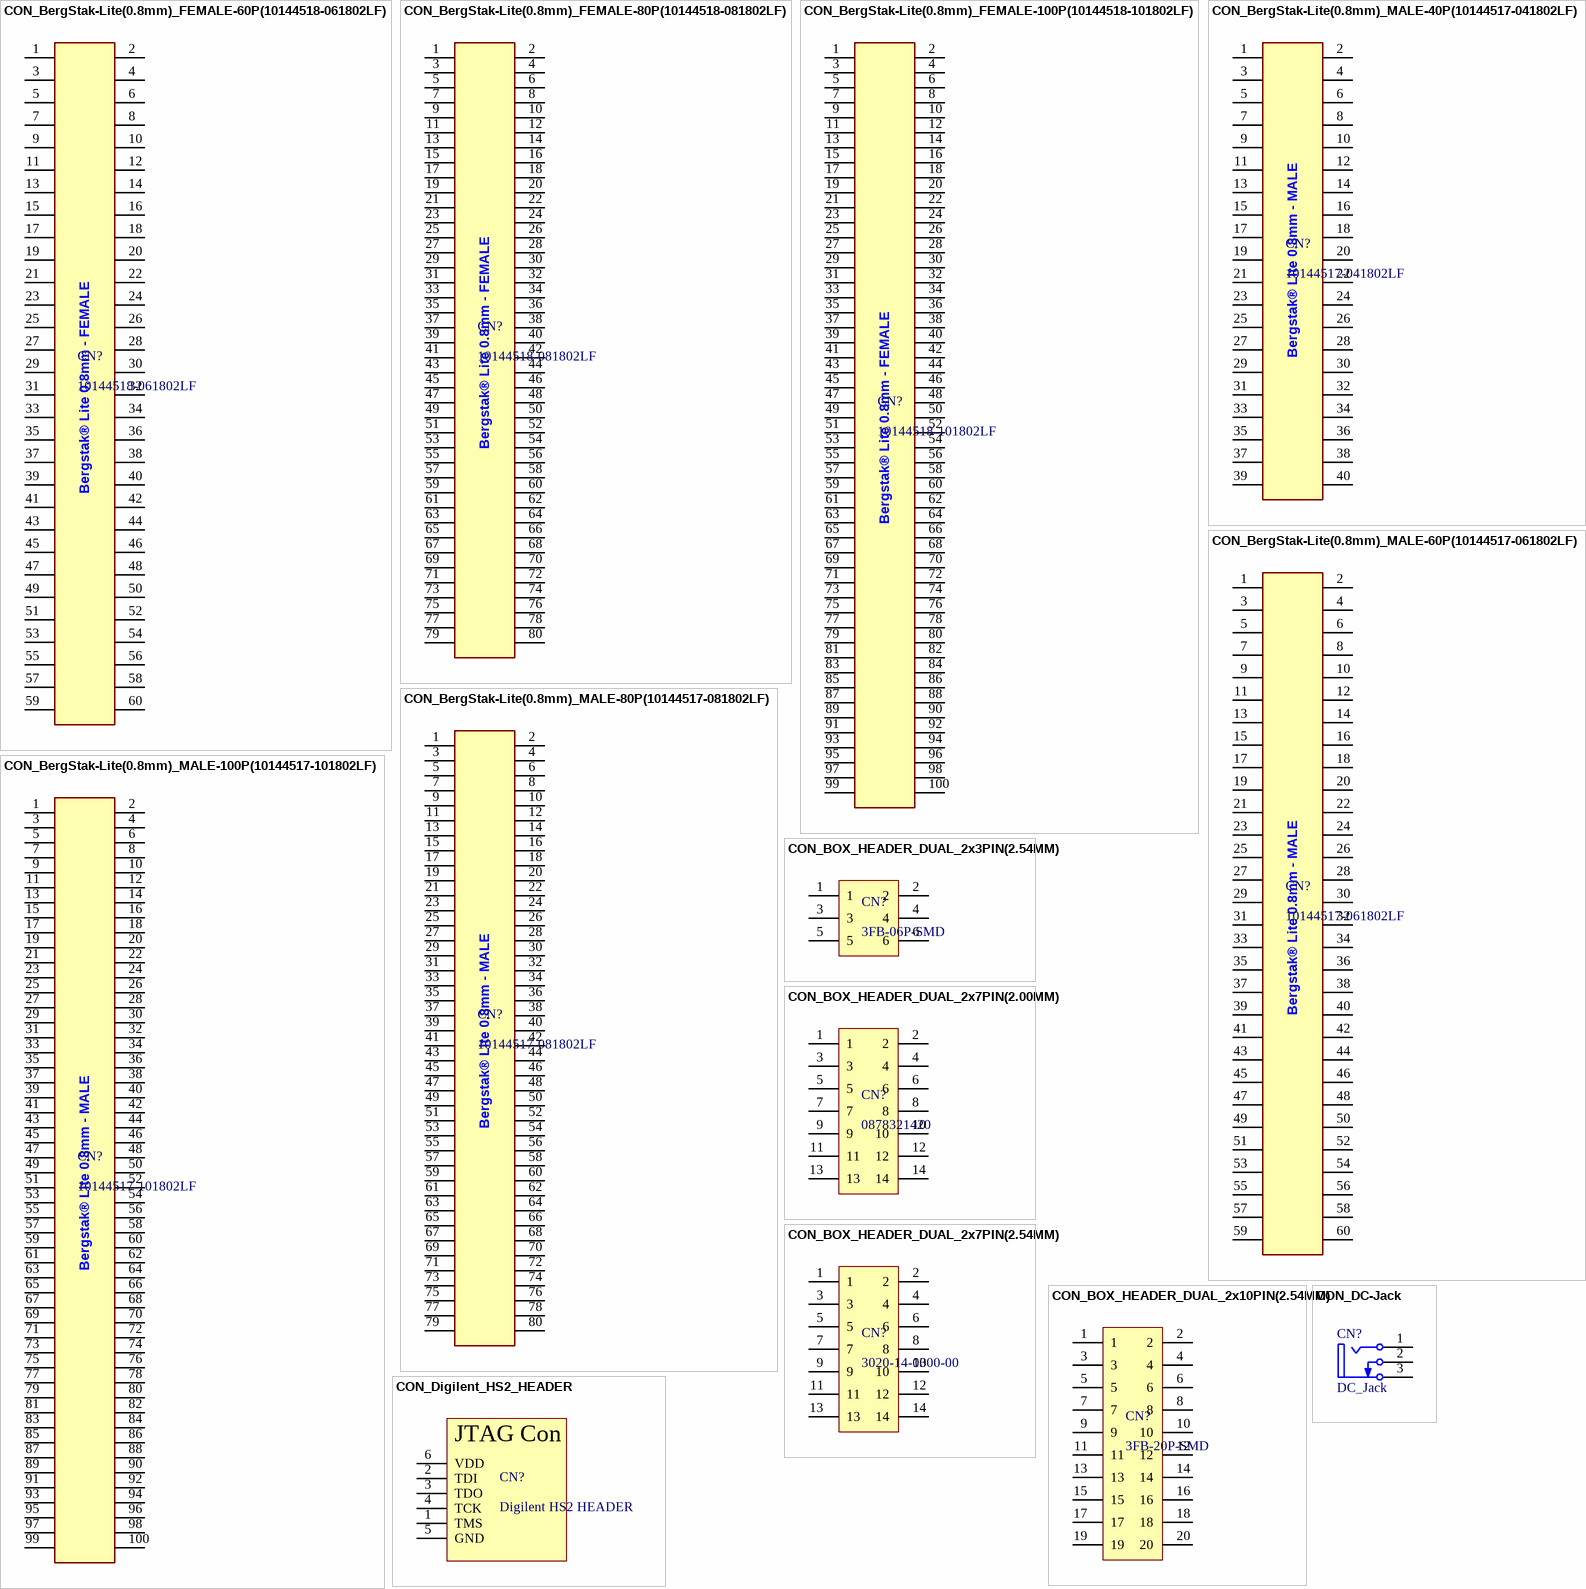
[diagram p3: symbols CON_BergStak-Lite(0.8mm)_FEMALE-60P(10144518-061802LF) to CON_Digilent_HS2_HEADER]

## CON_BergStak-Lite(0.8mm)_FEMALE-60P(10144518-061802LF)
designator CN?, comment 10144518-061802LF
JLCPCB Part Type: Extended Part
footprint CON_BergStak-Lite(0.8mm)_FEMALE-60P(10144518-061802LF)_HandSolder
pins: 1, 2, 3, 4, 5, 6, 7, 8, 9, 10, 11, 12, 13, 14, 15, 16, 17, 18, 19, 20, 21, 22, 23, 24, 25, 26, 27, 28, 29, 30, 31, 32, 33, 34, 35, 36, 37, 38, 39, 40, 41, 42, 43, 44, 45, 46, 47, 48, 49, 50, 51, 52, 53, 54, 55, 56, 57, 58, 59, 60
text: Bergstak® Lite 0.8mm - FEMALE

## CON_BergStak-Lite(0.8mm)_FEMALE-80P(10144518-081802LF)
designator CN?, comment 10144518-081802LF
JLCPCB Part Type: Extended Part
footprint CON_BergStak-Lite(0.8mm)_FEMALE-80P(10144518-081802LF)_HandSolder
pins: 1, 2, 3, 4, 5, 6, 7, 8, 9, 10, 11, 12, 13, 14, 15, 16, 17, 18, 19, 20, 21, 22, 23, 24, 25, 26, 27, 28, 29, 30, 31, 32, 33, 34, 35, 36, 37, 38, 39, 40, 41, 42, 43, 44, 45, 46, 47, 48, 49, 50, 51, 52, 53, 54, 55, 56, 57, 58, 59, 60, 61, 62, 63, 64, 65, 66, 67, 68, 69, 70, 71, 72, 73, 74, 75, 76, 77, 78, 79, 80
text: Bergstak® Lite 0.8mm - FEMALE

## CON_BergStak-Lite(0.8mm)_FEMALE-100P(10144518-101802LF)
designator CN?, comment 10144518-101802LF
JLCPCB Part Type: Extended Part
footprint CON_BergStak-Lite(0.8mm)_FEMALE-100P(10144518-101802LF)_HandSolder
pins: 1, 2, 3, 4, 5, 6, 7, 8, 9, 10, 11, 12, 13, 14, 15, 16, 17, 18, 19, 20, 21, 22, 23, 24, 25, 26, 27, 28, 29, 30, 31, 32, 33, 34, 35, 36, 37, 38, 39, 40, 41, 42, 43, 44, 45, 46, 47, 48, 49, 50, 51, 52, 53, 54, 55, 56, 57, 58, 59, 60, 61, 62, 63, 64, 65, 66, 67, 68, 69, 70, 71, 72, 73, 74, 75, 76, 77, 78, 79, 80, 81, 82, 83, 84, 85, 86, 87, 88, 89, 90, 91, 92, 93, 94, 95, 96, 97, 98, 99, 100
text: Bergstak® Lite 0.8mm - FEMALE

## CON_BergStak-Lite(0.8mm)_MALE-40P(10144517-041802LF)
designator CN?, comment 10144517-041802LF
JLCPCB Part Type: Extended Part
footprint CON_BergStak-Lite(0.8mm)_MALE-40P(10144517-041802LF)_HandSolder
pins: 1, 2, 3, 4, 5, 6, 7, 8, 9, 10, 11, 12, 13, 14, 15, 16, 17, 18, 19, 20, 21, 22, 23, 24, 25, 26, 27, 28, 29, 30, 31, 32, 33, 34, 35, 36, 37, 38, 39, 40
text: Bergstak® Lite 0.8mm - MALE

## CON_BergStak-Lite(0.8mm)_MALE-60P(10144517-061802LF)
designator CN?, comment 10144517-061802LF
JLCPCB Part Type: Extended Part
footprint CON_BergStak-Lite(0.8mm)_MALE-60P(10144517-061802LF)_HandSolder
pins: 1, 2, 3, 4, 5, 6, 7, 8, 9, 10, 11, 12, 13, 14, 15, 16, 17, 18, 19, 20, 21, 22, 23, 24, 25, 26, 27, 28, 29, 30, 31, 32, 33, 34, 35, 36, 37, 38, 39, 40, 41, 42, 43, 44, 45, 46, 47, 48, 49, 50, 51, 52, 53, 54, 55, 56, 57, 58, 59, 60
text: Bergstak® Lite 0.8mm - MALE

## CON_BergStak-Lite(0.8mm)_MALE-80P(10144517-081802LF)
designator CN?, comment 10144517-081802LF
JLCPCB Part Type: Extended Part
footprint CON_BergStak-Lite(0.8mm)_MALE-80P(10144517-081802LF)_HandSolder
pins: 1, 2, 3, 4, 5, 6, 7, 8, 9, 10, 11, 12, 13, 14, 15, 16, 17, 18, 19, 20, 21, 22, 23, 24, 25, 26, 27, 28, 29, 30, 31, 32, 33, 34, 35, 36, 37, 38, 39, 40, 41, 42, 43, 44, 45, 46, 47, 48, 49, 50, 51, 52, 53, 54, 55, 56, 57, 58, 59, 60, 61, 62, 63, 64, 65, 66, 67, 68, 69, 70, 71, 72, 73, 74, 75, 76, 77, 78, 79, 80
text: Bergstak® Lite 0.8mm - MALE

## CON_BergStak-Lite(0.8mm)_MALE-100P(10144517-101802LF)
designator CN?, comment 10144517-101802LF
JLCPCB Part Type: Extended Part
footprint CON_BergStak-Lite(0.8mm)_MALE-100P(10144517-101802LF)_HandSolder
pins: 1, 2, 3, 4, 5, 6, 7, 8, 9, 10, 11, 12, 13, 14, 15, 16, 17, 18, 19, 20, 21, 22, 23, 24, 25, 26, 27, 28, 29, 30, 31, 32, 33, 34, 35, 36, 37, 38, 39, 40, 41, 42, 43, 44, 45, 46, 47, 48, 49, 50, 51, 52, 53, 54, 55, 56, 57, 58, 59, 60, 61, 62, 63, 64, 65, 66, 67, 68, 69, 70, 71, 72, 73, 74, 75, 76, 77, 78, 79, 80, 81, 82, 83, 84, 85, 86, 87, 88, 89, 90, 91, 92, 93, 94, 95, 96, 97, 98, 99, 100
text: Bergstak® Lite 0.8mm - MALE

## CON_BOX_HEADER_DUAL_2x3PIN(2.54MM)
designator CN?, comment 3FB-06P-SMD
BOX HEADER 2x3 Pin SMD / 2.54mm pitch / with IDC Connector
footprint CON_BOX_HEADER_DUAL_2x3PIN(2.54MM)
pins: 1, 2, 3, 4, 5, 6

## CON_BOX_HEADER_DUAL_2x7PIN(2.00MM)
designator CN?, comment 0878321420
CONN HEADER SMD 14POS 2MM
footprint CON_BOX_HEADER_DUAL_2x7PIN(2.00MM) (0878321420) (Molex 0878321420)
pins: 1, 2, 3, 4, 5, 6, 7, 8, 9, 10, 11, 12, 13, 14

## CON_BOX_HEADER_DUAL_2x7PIN(2.54MM)
designator CN?, comment 3020-14-0300-00
BOX HEADER 2x7 Pin SMD / 2.54mm pitch / with IDC Connector
footprint CON_BOX_HEADER_DUAL_2x7PIN(2.54MM) (3020-14-0300-00) (3020-14-0300-00-TR)
pins: 1, 2, 3, 4, 5, 6, 7, 8, 9, 10, 11, 12, 13, 14

## CON_BOX_HEADER_DUAL_2x10PIN(2.54MM)
designator CN?, comment 3FB-20P-SMD
BOX HEADER 2x10 Pin SMD / 2.54mm pitch / with IDC Connector
pins: 1, 2, 3, 4, 5, 6, 7, 8, 9, 10, 11, 12, 13, 14, 15, 16, 17, 18, 19, 20

## CON_DC-Jack
designator CN?, comment DC_Jack
ComponentLink1Description: Manufacturer Link; ComponentLink1URL: http://www.cliffuk.co.uk/
footprint CON_DC-JACK
pins: 1 VCC (power) "Tip", 2 GND (power) "Tip Normal (Break Contact)", 3 GND (power) "Sleeve (Ground)"

## CON_Digilent_HS2_HEADER
designator CN?, comment Digilent HS2 HEADER
2.54mm pitch 6pin-header for Digilent HS2 Cable
pins: 1 TMS, 2 TDI, 3 TDO, 4 TCK, 5 GND, 6 VDD
text: JTAG Con

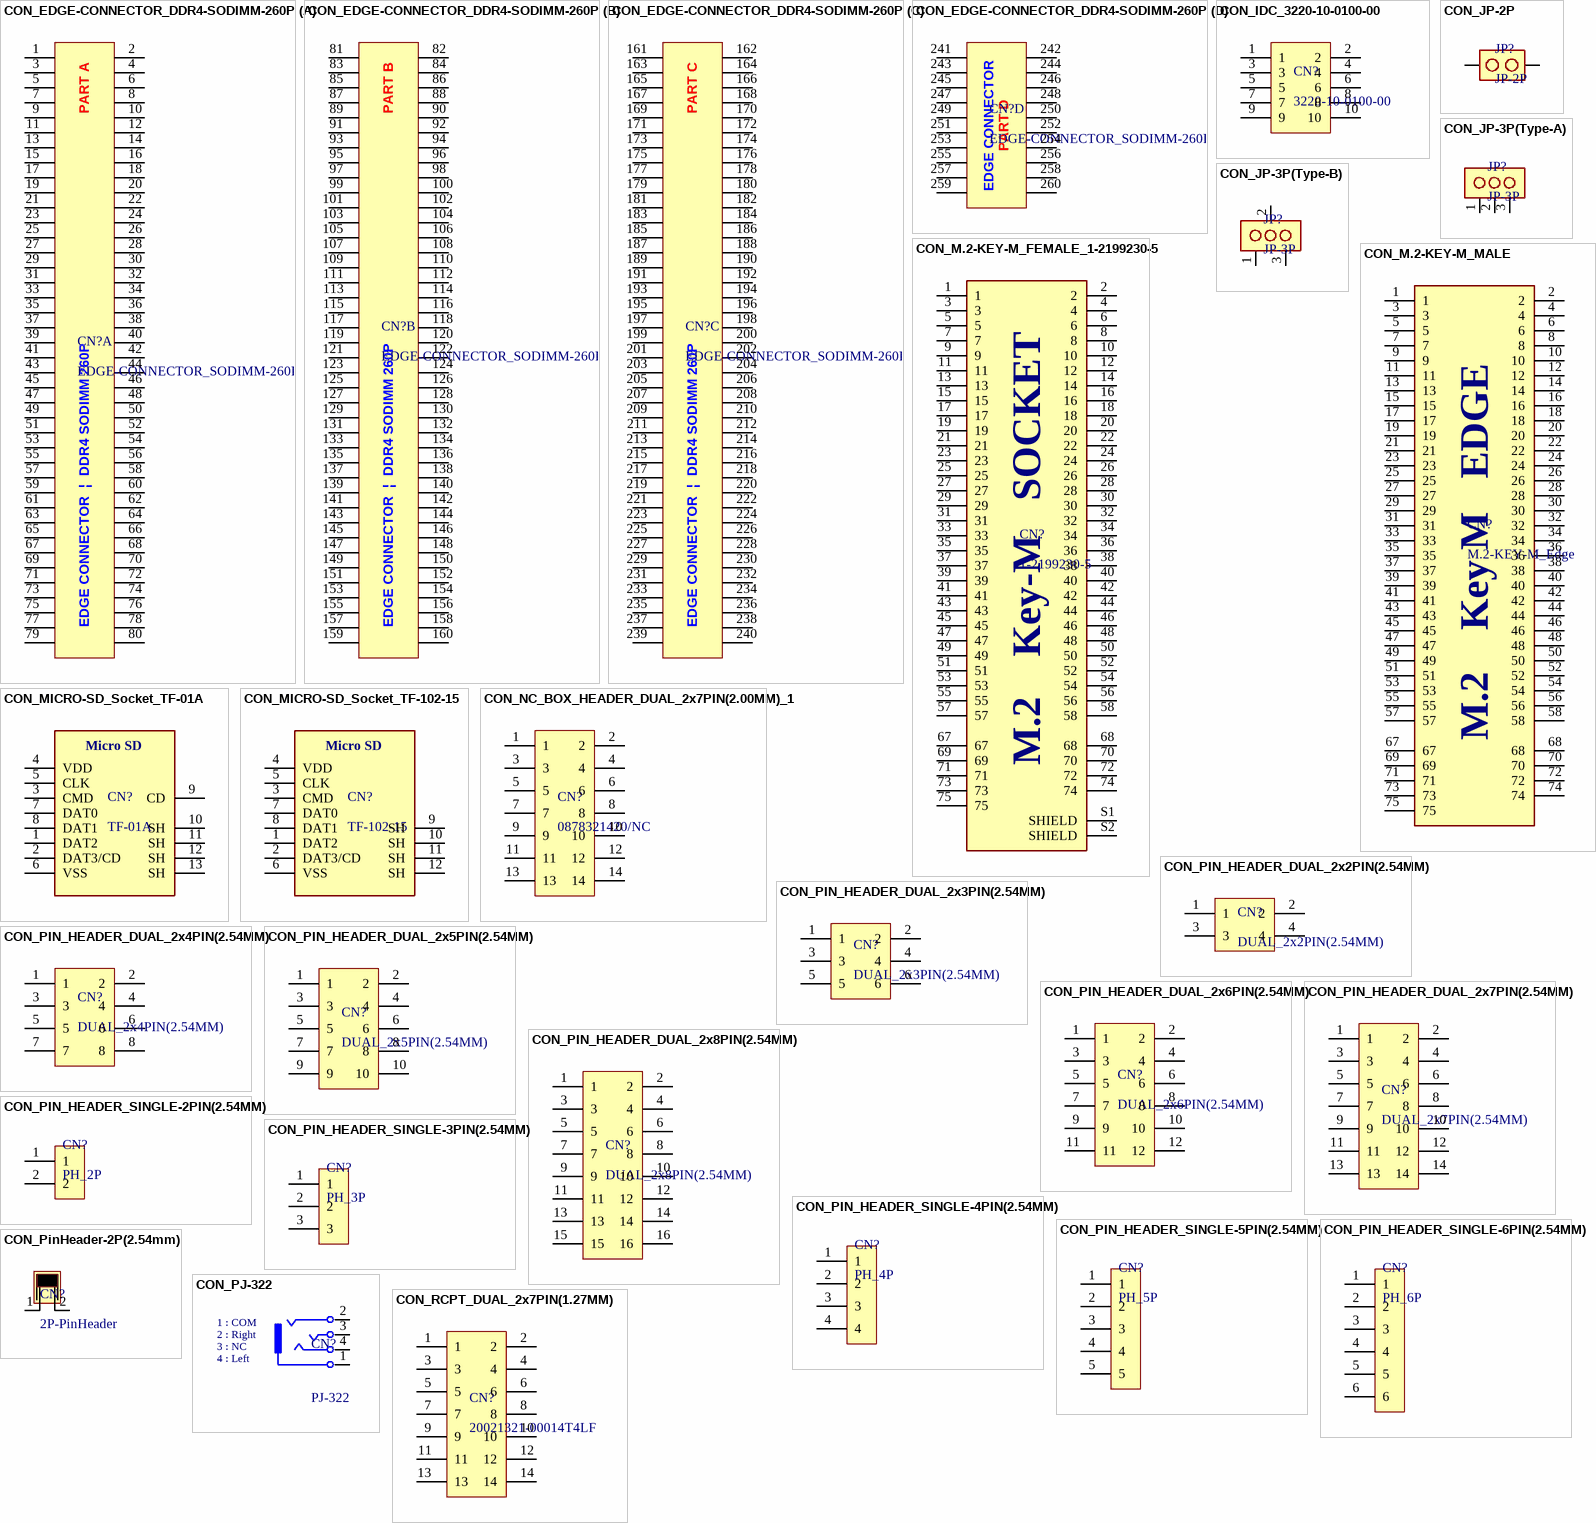
[diagram p4: symbols CON_EDGE-CONNECTOR_DDR4-SODIMM-260P to CON_RCPT_DUAL_2x7PIN(1.27MM)]

## CON_EDGE-CONNECTOR_DDR4-SODIMM-260P
designator CN?, comment EDGE-CONNECTOR_SODIMM-260P
EDGE-CONNECTOR_DDR4-SODIMM-260P; Mating Part Number: 2309409-1
footprint CON_EDGE-CONNECTOR_DDR4-SODIMM-260P
part A pins: 1, 2, 3, 4, 5, 6, 7, 8, 9, 10, 11, 12, 13, 14, 15, 16, 17, 18, 19, 20, 21, 22, 23, 24, 25, 26, 27, 28, 29, 30, 31, 32, 33, 34, 35, 36, 37, 38, 39, 40, 41, 42, 43, 44, 45, 46, 47, 48, 49, 50, 51, 52, 53, 54, 55, 56, 57, 58, 59, 60, 61, 62, 63, 64, 65, 66, 67, 68, 69, 70, 71, 72, 73, 74, 75, 76, 77, 78, 79, 80
part B pins: 81, 82, 83, 84, 85, 86, 87, 88, 89, 90, 91, 92, 93, 94, 95, 96, 97, 98, 99, 100, 101, 102, 103, 104, 105, 106, 107, 108, 109, 110, 111, 112, 113, 114, 115, 116, 117, 118, 119, 120, 121, 122, 123, 124, 125, 126, 127, 128, 129, 130, 131, 132, 133, 134, 135, 136, 137, 138, 139, 140, 141, 142, 143, 144, 145, 146, 147, 148, 149, 150, 151, 152, 153, 154, 155, 156, 157, 158, 159, 160
part C pins: 161, 162, 163, 164, 165, 166, 167, 168, 169, 170, 171, 172, 173, 174, 175, 176, 177, 178, 179, 180, 181, 182, 183, 184, 185, 186, 187, 188, 189, 190, 191, 192, 193, 194, 195, 196, 197, 198, 199, 200, 201, 202, 203, 204, 205, 206, 207, 208, 209, 210, 211, 212, 213, 214, 215, 216, 217, 218, 219, 220, 221, 222, 223, 224, 225, 226, 227, 228, 229, 230, 231, 232, 233, 234, 235, 236, 237, 238, 239, 240
part D pins: 241, 242, 243, 244, 245, 246, 247, 248, 249, 250, 251, 252, 253, 254, 255, 256, 257, 258, 259, 260
part A text: PART A; EDGE CONNECTOR  |  DDR4 SODIMM 260P
part B text: PART B; EDGE CONNECTOR  |  DDR4 SODIMM 260P
part C text: PART C; EDGE CONNECTOR  |  DDR4 SODIMM 260P
part D text: EDGE CONNECTOR; PART D

## CON_IDC_3220-10-0100-00
designator CN?, comment 3220-10-0100-00
CONN HEADER VERT 10POS 1.27MM
footprint CON 3220-10-0100-00 (CONN HEADER VERT 10POS 1.27MM)
footprint CON 3220-10-0100-00 (Hand_Solder) (CONN HEADER VERT 10POS 1.27MM (Hand_Solder))
pins: 1, 2, 3, 4, 5, 6, 7, 8, 9, 10

## CON_JP-2P
designator JP?, comment JP-2P
footprint CON PIN_HEADER-2PIN(2.54MM) (Pin Header 2P 2.54mm)
pins: 1, 2

## CON_JP-3P(Type-A)
designator JP?, comment JP-3P
footprint CON 77311-424-03LF (BergStik®, Board to Board connector, Unshrouded vertical Header, Through Hole, Single Row, 03 Positions, 2.54 mm Pitch.)
pins: 1, 2, 3

## CON_JP-3P(Type-B)
designator JP?, comment JP-3P
footprint CON 77311-424-03LF (BergStik®, Board to Board connector, Unshrouded vertical Header, Through Hole, Single Row, 03 Positions, 2.54 mm Pitch.)
pins: 1, 2, 3

## CON_M.2-KEY-M_FEMALE_1-2199230-5
designator CN?, comment 1-2199230-5  (no BOM)
M.2 NGFF Key M Card Edge Connector 0.5mm Pitch 67 Position 4.2mm Height; Manufacturer: TE Connectivity; Manufacturer Part Number: 1-2199230-5; Distributor Link: https://eu.mouser.com/ProductDetail/TE-Connectivity/1-2199230-5?qs=N0TJGnUfxCD5L9UvFjPEwQ%3D%3D; LCSC Part #: C590854; JLCPCB Part Type: Extended Part
footprint CON_M.2-KEY-M_FEMALE_1-2199230-5
pins: 1, 2, 3, 4, 5, 6, 7, 8, 9, 10, 11, 12, 13, 14, 15, 16, 17, 18, 19, 20, 21, 22, 23, 24, 25, 26, 27, 28, 29, 30, 31, 32, 33, 34, 35, 36, 37, 38, 39, 40, 41, 42, 43, 44, 45, 46, 47, 48, 49, 50, 51, 52, 53, 54, 55, 56, 57, 58, 67, 68, 69, 70, 71, 72, 73, 74, 75, S1 SHIELD, S2 SHIELD
text: SOCKET; Key-M; M.2

## CON_M.2-KEY-M_MALE
designator CN?, comment M.2-KEY-M_Edge  (no BOM)
M.2 Key M Edge
footprint CON_M.2-KEY-M_MALE_22x80
pins: 1, 2, 3, 4, 5, 6, 7, 8, 9, 10, 11, 12, 13, 14, 15, 16, 17, 18, 19, 20, 21, 22, 23, 24, 25, 26, 27, 28, 29, 30, 31, 32, 33, 34, 35, 36, 37, 38, 39, 40, 41, 42, 43, 44, 45, 46, 47, 48, 49, 50, 51, 52, 53, 54, 55, 56, 57, 58, 67, 68, 69, 70, 71, 72, 73, 74, 75
text: EDGE; Key M; M.2

## CON_MICRO-SD_Socket_TF-01A
designator CN?, comment TF-01A
Card Slot MicroSD card (TF card) Self-bouncing SMD SD Card / Memory Card Connector ROHS; LCSC Part #: C91145; JLCPCB Part Type: Extended Part
footprint CON_MICRO-SD_Socket_TF-01A (Card Slot MicroSD card (TF card) Self-bouncing SMD SD Card / Memory Card Connector ROHS)
pins: 1 DAT2, 2 DAT3/CD, 3 CMD, 4 VDD, 5 CLK, 6 VSS, 7 DAT0, 8 DAT1, 9 CD, 10 SH, 11 SH, 12 SH, 13 SH
text: Micro SD

## CON_MICRO-SD_Socket_TF-102-15
designator CN?, comment TF-102-15
-25℃~+85℃ 1.6mm Gold Deck MicroSD card (TF card) 260℃ Phosphor coppe Clamshell SMD  SD Card Connectors ROHS; LCSC Part #: C266609; JLCPCB Part Type: Extended Part
footprint CON_MICRO-SD_Socket_TF-102-15 (-25℃~+85℃ 1.6mm Gold Deck MicroSD card (TF card) 260℃ Phosphor coppe Clamshell SMD  SD Card Connectors ROHS)
pins: 1 DAT2, 2 DAT3/CD, 3 CMD, 4 VDD, 5 CLK, 6 VSS, 7 DAT0, 8 DAT1, 9 SH, 10 SH, 11 SH, 12 SH
text: Micro SD

## CON_NC_BOX_HEADER_DUAL_2x7PIN(2.00MM)_1
designator CN?, comment 0878321420/NC
CONN HEADER SMD 14POS 2MM
footprint CON_NC_BOX_HEADER_DUAL_2x7PIN(2.00MM) (0878321420) (Molex 0878321420)
pins: 1, 2, 3, 4, 5, 6, 7, 8, 9, 10, 11, 12, 13, 14

## CON_PIN_HEADER_DUAL_2x2PIN(2.54MM)
designator CN?, comment DUAL_2x2PIN(2.54MM)
PIN_HEADER_DUAL_2x2PIN(2.54MM)
footprint CON PIN_HEADER_DUAL_2x2PIN(2.54MM) (CON_PIN_HEADER_DUAL_2x2PIN(2.54MM))
pins: 1, 2, 3, 4

## CON_PIN_HEADER_DUAL_2x3PIN(2.54MM)
designator CN?, comment DUAL_2x3PIN(2.54MM)
PIN_HEADER_DUAL_2x3PIN(2.54MM)
footprint CON PIN_HEADER_DUAL_2x3PIN(2.54MM) (CON_PIN_HEADER_DUAL_2x3PIN(2.54MM))
pins: 1, 2, 3, 4, 5, 6

## CON_PIN_HEADER_DUAL_2x4PIN(2.54MM)
designator CN?, comment DUAL_2x4PIN(2.54MM)
PIN_HEADER_DUAL_2x4PIN(2.54MM)
footprint CON PIN_HEADER_DUAL_2x4PIN(2.54MM) (CON_PIN_HEADER_DUAL_2x4PIN(2.54MM))
pins: 1, 2, 3, 4, 5, 6, 7, 8

## CON_PIN_HEADER_DUAL_2x5PIN(2.54MM)
designator CN?, comment DUAL_2x5PIN(2.54MM)
PIN_HEADER_DUAL_2x5PIN(2.54MM)
footprint CON PIN_HEADER_DUAL_2x5PIN(2.54MM) (CON_PIN_HEADER_DUAL_2x5PIN(2.54MM))
pins: 1, 2, 3, 4, 5, 6, 7, 8, 9, 10

## CON_PIN_HEADER_DUAL_2x6PIN(2.54MM)
designator CN?, comment DUAL_2x6PIN(2.54MM)
PIN_HEADER_DUAL_2x6PIN(2.54MM)
footprint CON PIN_HEADER_DUAL_2x6PIN(2.54MM) (CON_PIN_HEADER_DUAL_2x6PIN(2.54MM))
pins: 1, 2, 3, 4, 5, 6, 7, 8, 9, 10, 11, 12

## CON_PIN_HEADER_DUAL_2x7PIN(2.54MM)
designator CN?, comment DUAL_2x7PIN(2.54MM)
PIN_HEADER_DUAL_2x7PIN(2.54MM)
footprint CON PIN_HEADER_DUAL_2x7PIN(2.54MM) (CON_PIN_HEADER_DUAL_2x7PIN(2.54MM))
pins: 1, 2, 3, 4, 5, 6, 7, 8, 9, 10, 11, 12, 13, 14

## CON_PIN_HEADER_DUAL_2x8PIN(2.54MM)
designator CN?, comment DUAL_2x8PIN(2.54MM)
PIN_HEADER_DUAL_2x8PIN(2.54MM)
footprint CON PIN_HEADER_DUAL_2x8PIN(2.54MM) (CON_PIN_HEADER_DUAL_2x8PIN(2.54MM))
pins: 1, 2, 3, 4, 5, 6, 7, 8, 9, 10, 11, 12, 13, 14, 15, 16

## CON_PIN_HEADER_SINGLE-2PIN(2.54MM)
designator CN?, comment PH_2P
CON_PIN_HEADER_SINGLE-2PIN(2.54MM)
footprint CON PIN_HEADER-2PIN(2.54MM) (Pin Header 2P 2.54mm)
pins: 1, 2

## CON_PIN_HEADER_SINGLE-3PIN(2.54MM)
designator CN?, comment PH_3P
CON_PIN_HEADER_SINGLE-3PIN(2.54MM)
footprint CON PIN_HEADER-3PIN(2.54MM) (Pin Header 3P 2.54mm)
pins: 1, 2, 3

## CON_PIN_HEADER_SINGLE-4PIN(2.54MM)
designator CN?, comment PH_4P
CON_PIN_HEADER_SINGLE-4PIN(2.54MM)
footprint CON PIN_HEADER-4PIN(2.54MM) (Pin Header 4P 2.54mm)
pins: 1, 2, 3, 4

## CON_PIN_HEADER_SINGLE-5PIN(2.54MM)
designator CN?, comment PH_5P
CON_PIN_HEADER_SINGLE-5PIN(2.54MM)
footprint CON PIN_HEADER-5PIN(2.54MM) (Pin Header 5P 2.54mm)
pins: 1, 2, 3, 4, 5

## CON_PIN_HEADER_SINGLE-6PIN(2.54MM)
designator CN?, comment PH_6P
CON_PIN_HEADER_SINGLE-6PIN(2.54MM)
footprint CON PIN_HEADER-6PIN(2.54MM) (Pin Header 6P 2.54mm)
pins: 1, 2, 3, 4, 5, 6

## CON_PinHeader-2P(2.54mm)
designator CN?, comment 2P-PinHeader
CONN PIN HEADER VERT 2POS 2.54MM
footprint CON PIN_HEADER-2PIN(2.54MM) (Pin Header 2P 2.54mm)
pins: 1, 2

## CON_PJ-322
designator CN?, comment PJ-322
Stereo Connector Female / 3.5Ø / RATING : DC 30V, 0.5A
footprint CON PJ-322 (3.5Pi Stereo Phone Jack)
pins: 1 COM, 2 RIGHT, 3 NC, 4 LEFT
text: 1 : COM; 2 : Right; 3 : NC; 4 : Left

## CON_RCPT_DUAL_2x7PIN(1.27MM)
designator CN?, comment 20021321-00014T4LF
14 Position Receptacle Connector 0.050" (1.27mm) Surface Mount Gold; LCSC Part #: C5412490; JLCPCB Part Type: Extended Part
footprint CON_RCPT_DUAL_2x7PIN(1.27MM)
pins: 1, 2, 3, 4, 5, 6, 7, 8, 9, 10, 11, 12, 13, 14

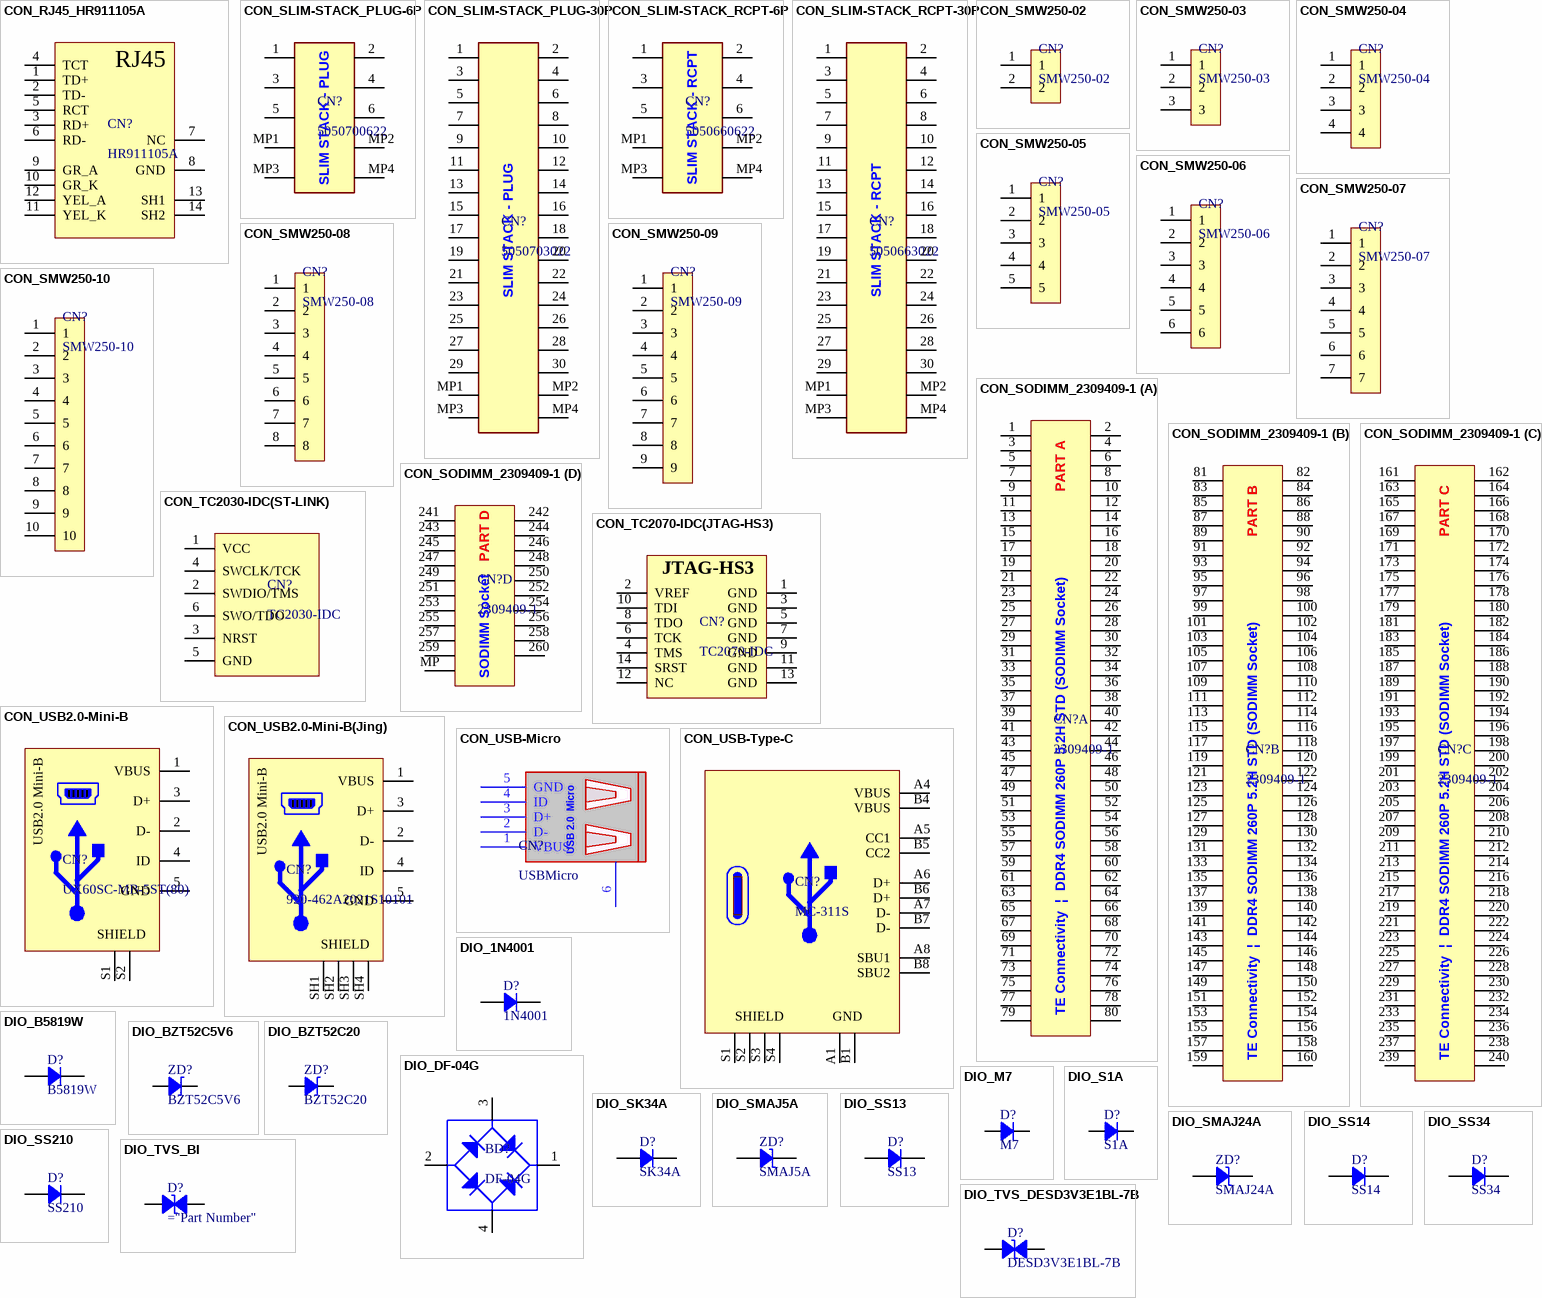
[diagram p5: symbols CON_RJ45_HR911105A to DIO_TVS_DESD3V3E1BL-7B]

## CON_RJ45_HR911105A
designator CN?, comment HR911105A
RJ45Receptacle 1 WithLED Plugin Ethernet Connectors / Modular Connectors (RJ45 RJ11) ROHS; LCSC Part #: C12074; JLCPCB Part Type: Extended Part
footprint CON_RJ45 (Part Name : HR911105A)
pins: 1 TD+, 2 TD-, 3 RD+, 4 TCT, 5 RCT, 6 RD-, 7 NC, 8 GND, 9 GR_A, 10 GR_K, 11 YEL_K, 12 YEL_A, 13 SH1, 14 SH2
text: RJ45

## CON_SLIM-STACK_PLUG-6P
designator CN?, comment 5050700622
6 Position Connector Plug, Outer Shroud Contacts Surface Mount Gold; LCSC Part #: C588006; JLCPCB Part Type: Extended Part
footprint CON_SLIM-STACK_PLUG-6P (6 Position Connector Plug, Outer Shroud Contacts Surface Mount Gold)
pins: 1, 2, 3, 4, 5, 6, MP1, MP2, MP3 5, MP4
text: SLIM STACK - PLUG

## CON_SLIM-STACK_PLUG-30P
designator CN?, comment 5050703022
30 Position Connector Plug, Outer Shroud Contacts Surface Mount Gold; LCSC Part #: None; JLCPCB Part Type: None
footprint CON_SLIM-STACK_PLUG-30P (30 Position Connector Plug, Outer Shroud Contacts Surface Mount Gold)
pins: 1, 2, 3, 4, 5, 6, 7, 8, 9, 10, 11, 12, 13, 14, 15, 16, 17, 18, 19, 20, 21, 22, 23, 24, 25, 26, 27, 28, 29, 30, MP1, MP2, MP3, MP4
text: SLIM STACK - PLUG

## CON_SLIM-STACK_RCPT-6P
designator CN?, comment 5050660622
6 Position Connector Receptacle, Center Strip Contacts Surface Mount Gold; LCSC Part #: C724122; JLCPCB Part Type: Extended Part
footprint CON_SLIM-STACK_RCPT-6P (6 Position Connector Receptacle, Center Strip Contacts Surface Mount Gold)
pins: 1, 2, 3, 4, 5, 6, MP1, MP2, MP3 5, MP4
text: SLIM STACK - RCPT

## CON_SLIM-STACK_RCPT-30P
designator CN?, comment 5050663022
30 Position Connector Receptacle, Center Strip Contacts Surface Mount Gold; LCSC Part #: C724129; JLCPCB Part Type: Extended Part
footprint CON_SLIM-STACK_RCPT-30P (6 Position Connector Receptacle, Center Strip Contacts Surface Mount Gold)
pins: 1, 2, 3, 4, 5, 6, 7, 8, 9, 10, 11, 12, 13, 14, 15, 16, 17, 18, 19, 20, 21, 22, 23, 24, 25, 26, 27, 28, 29, 30, MP1, MP2, MP3, MP4
text: SLIM STACK - RCPT

## CON_SMW250-02
designator CN?, comment SMW250-02
YEONHO 2.5mm Pitch Vertical Connector 2Pin
footprint CON_SMW250-02 (YEONHO 2.5mm Pitch Vertical Connector 2Pin)
pins: 1, 2

## CON_SMW250-03
designator CN?, comment SMW250-03
YEONHO 2.5mm Pitch Vertical Connector 3Pin
pins: 1, 2, 3

## CON_SMW250-04
designator CN?, comment SMW250-04
YEONHO 2.5mm Pitch Vertical Connector 4Pin
pins: 1, 2, 3, 4

## CON_SMW250-05
designator CN?, comment SMW250-05
YEONHO 2.5mm Pitch Vertical Connector 5Pin
pins: 1, 2, 3, 4, 5

## CON_SMW250-06
designator CN?, comment SMW250-06
YEONHO 2.5mm Pitch Vertical Connector 6Pin
pins: 1, 2, 3, 4, 5, 6

## CON_SMW250-07
designator CN?, comment SMW250-07
YEONHO 2.5mm Pitch Vertical Connector 7Pin
pins: 1, 2, 3, 4, 5, 6, 7

## CON_SMW250-08
designator CN?, comment SMW250-08
YEONHO 2.5mm Pitch Vertical Connector 8Pin
pins: 1, 2, 3, 4, 5, 6, 7, 8

## CON_SMW250-09
designator CN?, comment SMW250-09
YEONHO 2.5mm Pitch Vertical Connector 9Pin
pins: 1, 2, 3, 4, 5, 6, 7, 8, 9

## CON_SMW250-10
designator CN?, comment SMW250-10
YEONHO 2.5mm Pitch Vertical Connector 10Pin
footprint CON_SMW250-10 (YEONHO 2.5mm Pitch Vertical Connector 10Pin)
pins: 1, 2, 3, 4, 5, 6, 7, 8, 9, 10

## CON_SODIMM_2309409-1
designator CN?, comment 2309409-1
SO DIMM Socket, Small Outline (SO), Stack Height .205 in [5.2 mm], Right Angle Module Orientation, 260 Position, DDR4 DIMM; Manufacturer: TE Connectivity; Manufacturer Part Number: 2309409-1; JLCPCB Part Type: Extended Part; LCSC Part #: C5164025
footprint CON_SODIMM_2309409-1 (Footprint for 2309409-1 (TE Connectivity) (24.03.09))
part A pins: 1, 2, 3, 4, 5, 6, 7, 8, 9, 10, 11, 12, 13, 14, 15, 16, 17, 18, 19, 20, 21, 22, 23, 24, 25, 26, 27, 28, 29, 30, 31, 32, 33, 34, 35, 36, 37, 38, 39, 40, 41, 42, 43, 44, 45, 46, 47, 48, 49, 50, 51, 52, 53, 54, 55, 56, 57, 58, 59, 60, 61, 62, 63, 64, 65, 66, 67, 68, 69, 70, 71, 72, 73, 74, 75, 76, 77, 78, 79, 80
part B pins: 81, 82, 83, 84, 85, 86, 87, 88, 89, 90, 91, 92, 93, 94, 95, 96, 97, 98, 99, 100, 101, 102, 103, 104, 105, 106, 107, 108, 109, 110, 111, 112, 113, 114, 115, 116, 117, 118, 119, 120, 121, 122, 123, 124, 125, 126, 127, 128, 129, 130, 131, 132, 133, 134, 135, 136, 137, 138, 139, 140, 141, 142, 143, 144, 145, 146, 147, 148, 149, 150, 151, 152, 153, 154, 155, 156, 157, 158, 159, 160
part C pins: 161, 162, 163, 164, 165, 166, 167, 168, 169, 170, 171, 172, 173, 174, 175, 176, 177, 178, 179, 180, 181, 182, 183, 184, 185, 186, 187, 188, 189, 190, 191, 192, 193, 194, 195, 196, 197, 198, 199, 200, 201, 202, 203, 204, 205, 206, 207, 208, 209, 210, 211, 212, 213, 214, 215, 216, 217, 218, 219, 220, 221, 222, 223, 224, 225, 226, 227, 228, 229, 230, 231, 232, 233, 234, 235, 236, 237, 238, 239, 240
part D pins: 241, 242, 243, 244, 245, 246, 247, 248, 249, 250, 251, 252, 253, 254, 255, 256, 257, 258, 259, 260, MP
part A text: PART A; TE Connectivity  |  DDR4 SODIMM 260P 5.2H STD (SODIMM Socket)
part B text: PART B; TE Connectivity  |  DDR4 SODIMM 260P 5.2H STD (SODIMM Socket)
part C text: PART C; TE Connectivity  |  DDR4 SODIMM 260P 5.2H STD (SODIMM Socket)
part D text: PART D; SODIMM Socket

## CON_TC2030-IDC(ST-LINK)
designator CN?, comment TC2030-IDC  (no BOM)
Tag-Connect No-Solder SWD Debug Connector DO NOT PLACE; Manufacturer Part Number: TC2030; Manufacturer: Tag-Connect
footprint CON_TC2030-IDC
pins: 1 VCC, 2 SWDIO/TMS, 3 NRST, 4 SWCLK/TCK, 5 GND, 6 SWO/TDO

## CON_TC2070-IDC(JTAG-HS3)
designator CN?, comment TC2070-IDC
TC2070 14-pin Plug-of-Nails™ (with legs) to 14 pin 2mm female IDC connector.
footprint CON_TC2070-IDC
pins: 1 GND, 2 VREF, 3 GND, 4 TMS, 5 GND, 6 TCK, 7 GND, 8 TDO, 9 GND, 10 TDI, 11 GND, 12 NC, 13 GND, 14 SRST
text: JTAG-HS3

## CON_USB2.0-Mini-B
designator CN?, comment UX60SC-MB-5ST(80)
USB - mini B USB 2.0 Receptacle Connector 5 Position Surface Mount, Right Angle; LCSC Part #: C2692070; JLCPCB Part Type: Extended Part
footprint CON_USB2.0-Mini-B (UX60SC-MB-5ST(80)) (Part Name : UX60SC-MB-5ST(80))
pins: 1 VBUS, 2 D-, 3 D+, 4 ID, 5 GND, S1 SHIELD, S2 SHIELD
text: USB2.0 Mini-B

## CON_USB2.0-Mini-B(Jing)
designator CN?, comment 920-462A2021S10101
USB - mini B USB 2.0 Receptacle Connector 5 Position Surface Mount, Right Angle; LCSC Part #: C46391; JLCPCB Part Type: Extended Part
footprint CON_USB2.0-Mini-B (920-462A2021S10101) (Part Name : 920-462A2021S10101)
pins: 1 VBUS, 2 D-, 3 D+, 4 ID, 5 GND, SH1 SHIELD, SH2 SHIELD, SH3 SHIELD, SH4 SHIELD
text: USB2.0 Mini-B

## CON_USB-Micro
designator CN?, comment USBMicro
footprint CN_USBMicro5Pin2DIP2Side
pins: 1 VBUS (power) "VSS", 2 D- (power) "VSS", 3 D+ (power) "VSS", 4 ID (power) "VSS", 5 GND (power) "VSS", 6 Shield (power) "VSS"
text: USB 2.0  Micro

## CON_USB-Type-C
designator CN?, comment MC-311S
USB 2.0 5A 1 Surface Mount 16 Female -35℃~+75℃ Type-C SMD  USB Connectors ROHS; LCSC Part #: C2977718; JLCPCB Part Type: Extended Part
footprint CON USB-Type-C (16P) (USB 2.0 5A 1 Surface Mount 16 Female -35℃~+75℃ Type-C SMD  USB Connectors ROHS)
pins: A1 GND, A4 VBUS, A5 CC1, A6 D+, A7 D-, A8 SBU1, B1 GND, B4 VBUS, B5 CC2, B6 D+, B7 D-, B8 SBU2, S1 SHIELD, S2 SHIELD, S3 SHIELD, S4 SHIELD

## DIO_1N4001
designator D?, comment 1N4001
General Purpose Plastic Rectifier / IF(AV) = 1.0 A / VRRM = 50V / VF = 1.1 V / DO-204AL (DO-41); LCSC Part #: C162732; JLCPCB Part Type: Extended Part
footprint DO214AB SMC (Molded Diode, 2-Leads, Body 6.85x5.90mm, IPC Medium Density)
pins: 1, 2

## DIO_B5819W
designator D?, comment B5819W
40V 600mV@1A 1A SOD-123  Schottky Barrier Diodes (SBD) ROHS; LCSC Part #: C8598; JLCPCB Part Type: Basic Part
footprint DIO_SOD-123
pins: 1, 2

## DIO_BZT52C5V6
designator ZD?, comment BZT52C5V6
5.6[V] Vz, ±7.1%, 350mW, 40Ω ZT, SOD-123
pins: 1, 2

## DIO_BZT52C20
designator ZD?, comment BZT52C20
45nA@14V ±5% 55Ω Single 19V~21V 500mW 20V SOD-123F  Zener Diodes ROHS; LCSC Part #: C485492; JLCPCB Part Type: Extended Part
footprint DIO SOD-123F (SODFL, 2-Leads, Body 1.60x3.50mm, IPC Medium Density)
pins: 1, 2

## DIO_DF-04G
designator BD?, comment DF-04G
SINGLE PHASE BRIDGE DIODE / DIP 4Pin 1A 400V
pins: 1, 2, 3, 4

## DIO_M7
designator D?, comment M7
1A 5uA@1kV 1kV 1.1V@1A SMA(DO-214AC)  Diodes - General Purpose ROHS; LCSC Part #: C95872; JLCPCB Part Type: Basic Part
footprint DIO DO-214AC (SMA) (Molded Diode, 2-Leads, Body 4.30x2.60mm, IPC Medium Density)
pins: 1, 2

## DIO_S1A
designator D?, comment S1A
DIODE GEN PURP 50V 1A SMA; LCSC Part #: C519094; JLCPCB Part Type: Extended Part
footprint DIO DO-214AC (SMA) (Molded Diode, 2-Leads, Body 4.30x2.60mm, IPC Medium Density)
pins: 1, 2

## DIO_SK34A
designator D?, comment SK34A
DIODE SCHOTTKY 40V 3A SMA; LCSC Part #: C85269; JLCPCB Part Type: Extended Part
footprint DIO DO-214AC (SMA) (Molded Diode, 2-Leads, Body 4.30x2.60mm, IPC Medium Density)
pins: 1, 2

## DIO_SMAJ5A
designator ZD?, comment SMAJ5A
Rectifier Diode; LCSC Part #: C511513; JLCPCB Part Type: Extended Part
footprint DIO DO-214AC (SMA) (Molded Diode, 2-Leads, Body 4.30x2.60mm, IPC Medium Density)
pins: 1, 2

## DIO_SMAJ24A
designator ZD?, comment SMAJ24A
Rectifier Diode; LCSC Part #: C113962; JLCPCB Part Type: Extended Part
footprint DIO DO-214AC (SMA) (Molded Diode, 2-Leads, Body 4.30x2.60mm, IPC Medium Density)
pins: 1, 2

## DIO_SS13
designator D?, comment SS13
DIODE SCHOTTKY 30V 1A SMA; LCSC Part #: C64984; JLCPCB Part Type: Extended Part
footprint DIO DO-214AC (SMA) (Molded Diode, 2-Leads, Body 4.30x2.60mm, IPC Medium Density)
pins: 1, 2

## DIO_SS14
designator D?, comment SS14
0.5mA@40V 40V Single 1A 0.55V@1A SMA(DO-214AC)  Schottky Barrier Diodes (SBD) ROHS; LCSC Part #: C2480; JLCPCB Part Type: Basic Part
footprint DIO DO-214AC (SMA) (Molded Diode, 2-Leads, Body 4.30x2.60mm, IPC Medium Density)
pins: 1, 2

## DIO_SS34
designator D?, comment SS34
DIODE SCHOTTKY 40V 3A SMC; LCSC Part #: C8678; JLCPCB Part Type: Basic Part
footprint DIO DO-214AC (SMA) (Molded Diode, 2-Leads, Body 4.30x2.60mm, IPC Medium Density)
pins: 1, 2

## DIO_SS210
designator D?, comment SS210
100V 850mV@2A 2A SMA(DO-214AC)  Schottky Barrier Diodes (SBD) ROHS; LCSC Part #: C14996; JLCPCB Part Type: Basic Part
footprint DIO DO-214AC (SMA) (Molded Diode, 2-Leads, Body 4.30x2.60mm, IPC Medium Density)
pins: 1, 2

## DIO_TVS_BI
designator D?
Zener Diode
pins: 1, 2

## DIO_TVS_DESD3V3E1BL-7B
designator D?, comment DESD3V3E1BL-7B
TVS DIODE 3.3VWM 7VC DFN1006-2; LCSC Part #: C461817; JLCPCB Part Type: Extended Part
pins: 1, 2

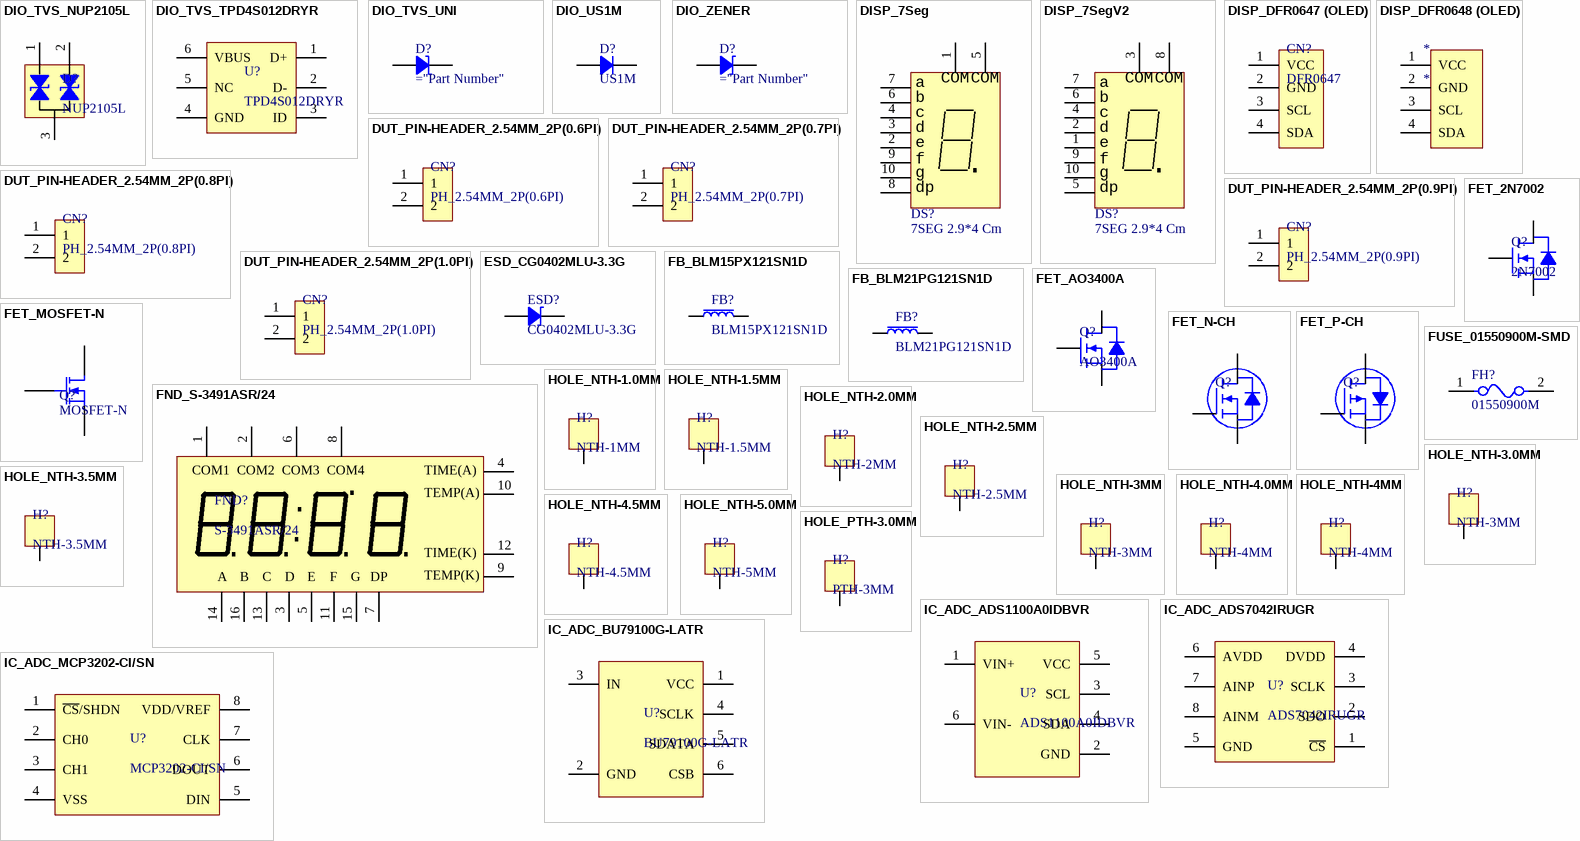
[diagram p6: symbols DIO_TVS_NUP2105L to IC_ADC_MCP3202-CI/SN]

## DIO_TVS_NUP2105L
designator D?, comment NUP2105L
SOT-23 ESD PROTECTION DEVICES RO; LCSC Part #: C5158054; JLCPCB Part Type: Extended Part
footprint SOT 23-3 (DIODES INCORPORATED) (SOT23, 3-Leads, Body 2.90x2.40mm, Pitch 0.95mm, IPC Medium Density)
pins: 1 CANH, 2 CANL, 3 GND

## DIO_TVS_TPD4S012DRYR
designator U?, comment TPD4S012DRYR
Clamp 3A (8/20µs) Ipp Tvs Diode Surface Mount 6-SON (1.45x1); LCSC Part #: C96506; JLCPCB Part Type: Extended Part
footprint IC_SON-6
pins: 1 D+, 2 D-, 3 ID, 4 GND, 5 NC, 6 VBUS

## DIO_TVS_UNI
designator D?
Rectifier Diode
pins: 1, 2

## DIO_US1M
designator D?, comment US1M
Ultrafast Switching Surface Mount Si-Diodes / VRRM = 1000V / IFmax = 1A / VF < 1.7V; LCSC Part #: C412437; JLCPCB Part Type: Basic Part
footprint DIO DO-214AB (SMC) (Molded Diode, 2-Leads, Body 6.85x5.90mm, IPC Medium Density)
pins: 1, 2

## DIO_ZENER
designator D?
Zener Diode
pins: 1, 2